# Altium schematic symbol library INS.SchLib: 115 symbols (part 1 of 2)
Pins are listed as number, name and electrical type; pins without a type are passive.

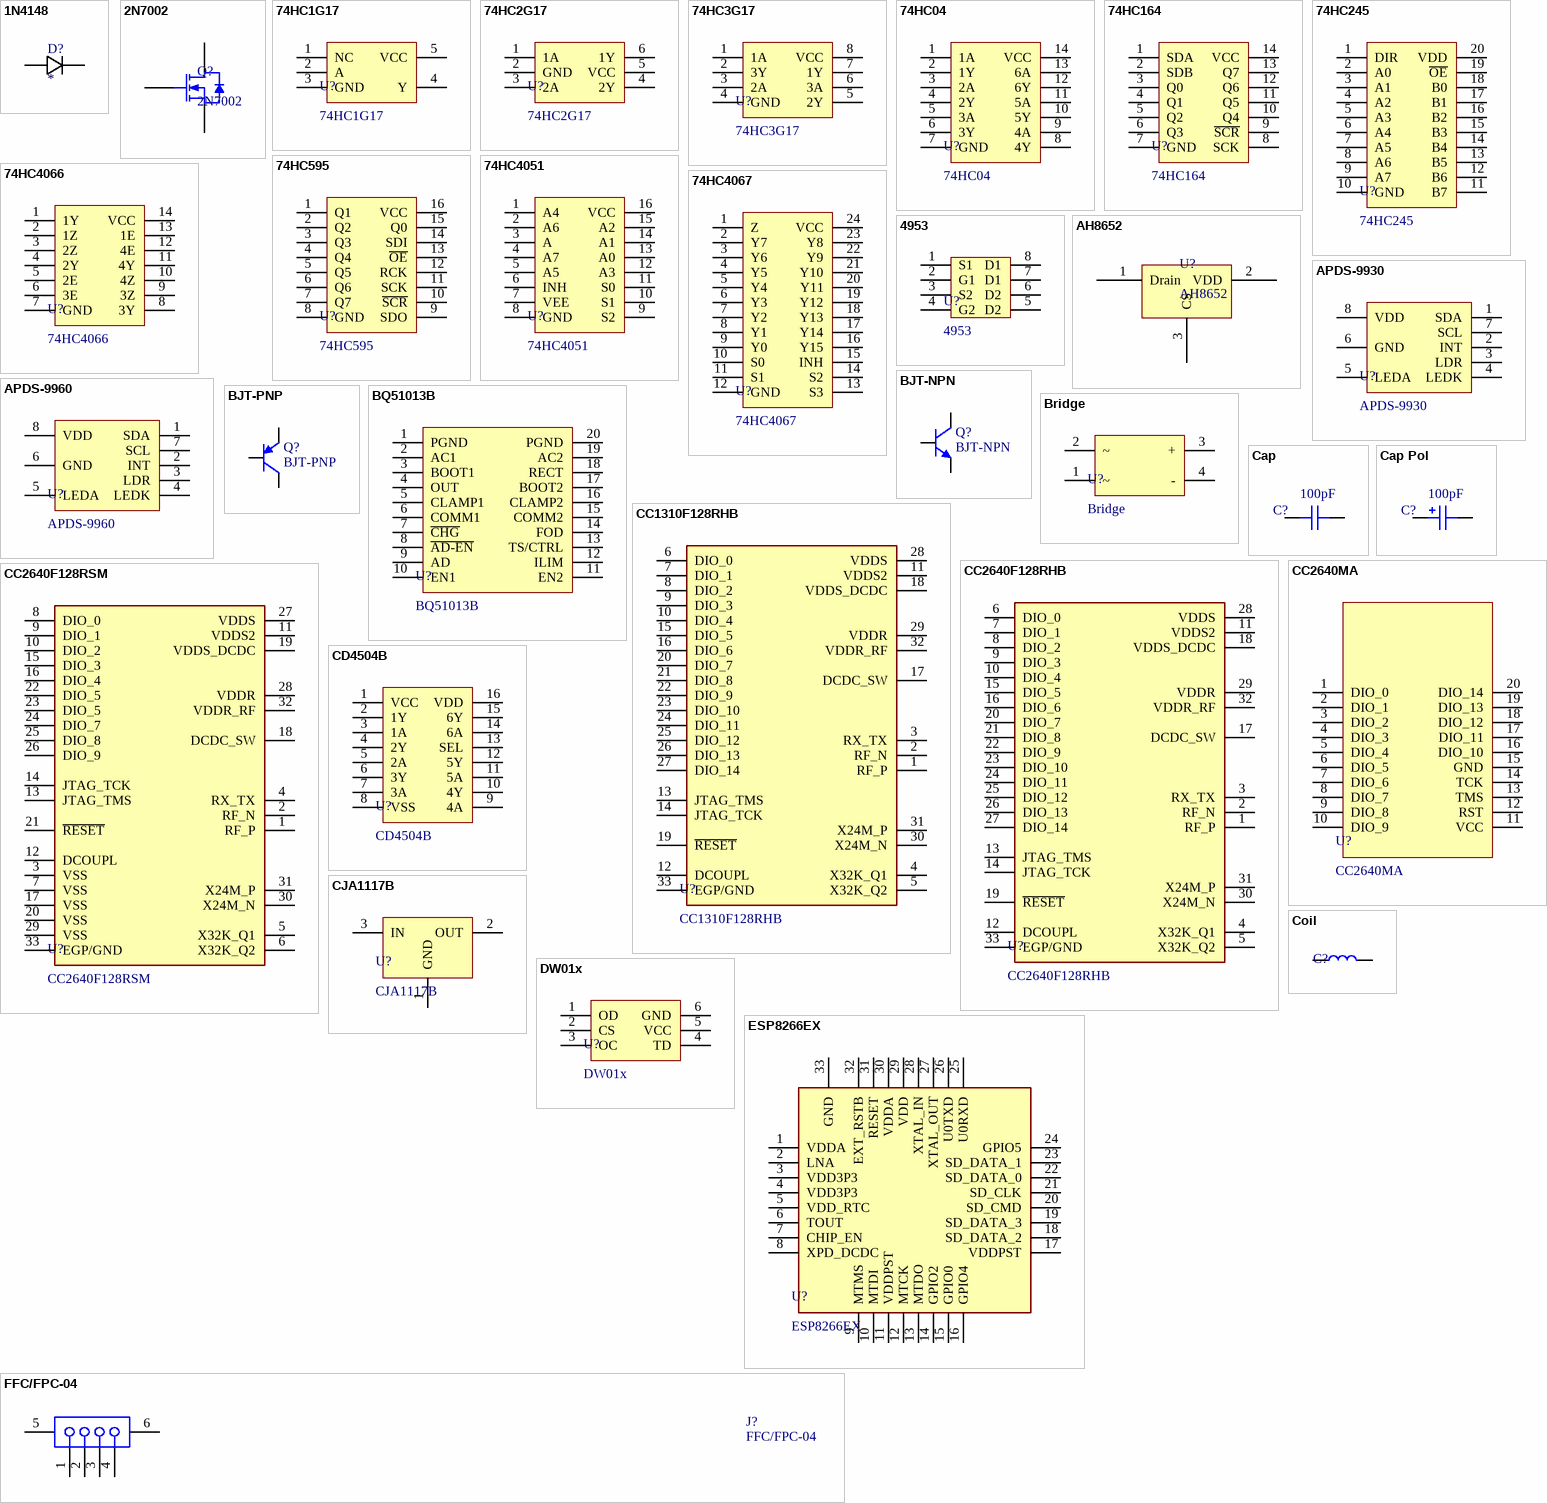
[diagram p0: symbols 1N4148 to FFC/FPC-04]

## 1N4148
designator D?
footprint SOD-523
footprint SOD-523 - 0.8
footprint SOD-123
footprint SMA
footprint SOD-323
footprint SMAF
pins: 1, 2

## 2N7002
designator Q?
footprint SOT-23-3
footprint SOT-323/SC70-3
pins: 1 G, 2 S, 3 D

## 74HC1G17
designator U?
footprint SOT-23-5
pins: 1 NC, 2 A, 3 GND, 4 Y, 5 VCC

## 74HC2G17
designator U?
footprint SOT-363/SC70-6
pins: 1 1A, 2 GND, 3 2A, 4 2Y, 5 VCC, 6 1Y

## 74HC3G17
designator U?
footprint TSSOP8 (Thin Shrink Small Outline; 8 Leads; Body Width 4.4 mm; Pitch 0.65 mm)
pins: 1 1A, 2 3Y, 3 2A, 4 GND, 5 2Y, 6 3A, 7 1Y, 8 VCC

## 74HC04
designator U?
footprint 74HC245
footprint TSSOP14 (Thin Shrink Small Outline; 14 Leads; Body Width 4.4 mm; Pitch 0.65 mm)
pins: 1 1A, 2 1Y, 3 2A, 4 2Y, 5 3A, 6 3Y, 7 GND, 8 4Y, 9 4A, 10 5Y, 11 5A, 12 6Y, 13 6A, 14 VCC

## 74HC164
designator U?
footprint TSSOP14 (Thin Shrink Small Outline; 14 Leads; Body Width 4.4 mm; Pitch 0.65 mm)
pins: 1 SDA, 2 SDB, 3 Q0, 4 Q1, 5 Q2, 6 Q3, 7 GND, 8 SCK, 9 ~{SCR}, 10 Q4, 11 Q5, 12 Q6, 13 Q7, 14 VCC

## 74HC245
designator U?
footprint 74HC245
footprint TSSOP20 (Thin Shrink Small Outline; 20 Leads; Body Width 4.4 mm; Pitch 0.65 mm)
pins: 1 DIR, 2 A0, 3 A1, 4 A2, 5 A3, 6 A4, 7 A5, 8 A6, 9 A7, 10 GND, 11 B7, 12 B6, 13 B5, 14 B4, 15 B3, 16 B2, 17 B1, 18 B0, 19 ~{OE}, 20 VDD

## 74HC595
designator U?
footprint 74HC595
footprint TSSOP16 (Thin Shrink Small Outline; 16 Leads; Body Width 4.4 mm; Pitch 0.65 mm)
footprint DHVQFN16
footprint DHVQFN16 - NoPad
footprint DHVQFN16 - SM
pins: 1 Q1, 2 Q2, 3 Q3, 4 Q4, 5 Q5, 6 Q6, 7 Q7, 8 GND, 9 SDO, 10 ~{SCR}, 11 SCK, 12 RCK, 13 ~{OE}, 14 SDI, 15 Q0, 16 VCC

## 74HC4051
designator U?
footprint 74HC4051
footprint TSSOP16 (Thin Shrink Small Outline; 16 Leads; Body Width 4.4 mm; Pitch 0.65 mm)
footprint DHVQFN16
pins: 1 A4, 2 A6, 3 A, 4 A7, 5 A5, 6 INH, 7 VEE, 8 GND, 9 S2, 10 S1, 11 S0, 12 A3, 13 A0, 14 A1, 15 A2, 16 VCC

## 74HC4066
designator U?
footprint TSSOP14 (Thin Shrink Small Outline; 14 Leads; Body Width 4.4 mm; Pitch 0.65 mm)
pins: 1 1Y, 2 1Z, 3 2Z, 4 2Y, 5 2E, 6 3E, 7 GND, 8 3Y, 9 3Z, 10 4Z, 11 4Y, 12 4E, 13 1E, 14 VCC

## 74HC4067
designator U?
footprint 74HC4067
footprint TSSOP24 (Thin Shrink Small Outline; 24 Leads; Body Width 4.4 mm; Pitch 0.65 mm)
pins: 1 Z, 2 Y7, 3 Y6, 4 Y5, 5 Y4, 6 Y3, 7 Y2, 8 Y1, 9 Y0, 10 S0, 11 S1, 12 GND, 13 S3, 14 S2, 15 INH, 16 Y15, 17 Y14, 18 Y13, 19 Y12, 20 Y11, 21 Y10, 22 Y9, 23 Y8, 24 VCC

## 4953
designator U?
footprint 4953
3D model SO8_0_0000_U (PCB3D Model)
pins: 1 S1, 2 G1, 3 S2, 4 G2, 5 D2, 6 D2, 7 D1, 8 D1

## AH8652
designator U?
footprint SOT-23-3
pins: 1 Drain , 2 VDD, 3 CS

## APDS-9930
designator U?
footprint APDS-9930
pins: 1 SDA, 2 INT, 3 LDR, 4 LEDK, 5 LEDA, 6 GND, 7 SCL, 8 VDD

## APDS-9960
designator U?
footprint APDS-9960
pins: 1 SDA, 2 INT, 3 LDR, 4 LEDK, 5 LEDA, 6 GND, 7 SCL, 8 VDD

## BJT-NPN
designator Q?
NPN General Purpose Amplifier; Published: 8-Jun-2000; LatestRevisionDate: 15-Jan-2003; LatestRevisionNote: PCB Footprint 'BCY-W3/D4.7' replaced; DatasheetVersion: 1997; PackageVersion: Sep-1998; PackageReference: TO-92A; Publisher: Altium Limited; PackageDescription: TO, Flat Index; 3 In-Line, Axial Leads; Body Dia. 4.5mm; Leads 0.51 x 0.48 mm (max); ComponentLink1Description: Manufacturer Link; ComponentLink1URL: http://www.fairchildsemi.com/; ComponentLink2Description: Datasheet; ComponentLink2URL: http://www.fairchildsemi.com/ds/2N%2F2N3904.pdf
footprint SOT-23-3
footprint SOT-323/SC70-3
pins: 1 E, 2 B, 3 C

## BJT-PNP
designator Q?
PNP General Purpose Amplifier; Published: 8-Jun-2000; LatestRevisionDate: 15-Jan-2003; LatestRevisionNote: PCB Footprint 'BCY-W3/D4.7' replaced; DatasheetVersion: 1997; PackageVersion: Sep-1998; PackageReference: TO-92A; Publisher: Altium Limited; PackageDescription: TO, Flat Index; 3 In-Line, Axial Leads; Body Dia. 4.5mm; Leads 0.51 x 0.48 mm (max); ComponentLink1Description: Manufacturer Link; ComponentLink1URL: http://www.fairchildsemi.com/; ComponentLink2Description: Datasheet; ComponentLink2URL: http://www.fairchildsemi.com/ds/2N%2F2N3906.pdf
footprint SOT-23-3
footprint SOT-323/SC70-3
pins: 1 E, 2 B, 3 C

## BQ51013B
designator U?
footprint VQFN20
pins: 1 PGND, 2 AC1, 3 BOOT1, 4 OUT, 5 CLAMP1, 6 COMM1, 7 ~{CHG}, 8 ~{AD-EN}, 9 AD, 10 EN1, 11 EN2, 12 ILIM, 13 TS/CTRL, 14 FOD, 15 COMM2, 16 CLAMP2, 17 BOOT2, 18 RECT, 19 AC2, 20 PGND

## Bridge
designator U?
footprint MBxF
pins: 1 ~, 2 ~, 3 +, 4 -

## Cap
designator C?  value 100pF  (hidden comment: Cap)
Capacitor; Published: 8-Jun-2000; LatestRevisionDate: 17-Jul-2002; LatestRevisionNote: Re-released for DXP Platform.; PackageReference: RB7.6-15; Publisher: Altium Limited; PackageDescription: Polarized Capacitor (Radial); 2 Leads
footprint 0402 - CAP
footprint 0603 - CAP
footprint RAD-3.6-5.0
footprint RAD-3.2-5.0
footprint 0201
footprint RAD-3.2-6.0
footprint 0805
pins: 1, 2
1 alternate drawing of the same symbol

## Cap Pol
designator C?  value 100pF  (hidden comment: Cap Pol)
Polarized Capacitor; Published: 8-Jun-2000; LatestRevisionDate: 17-Jul-2002; LatestRevisionNote: Re-released for DXP Platform.; PackageReference: RB7.6-15; Publisher: Altium Limited; PackageDescription: Polarized Capacitor (Radial); 2 Leads
footprint 0603 - CAP
footprint RB-6.3-2.5 (Polarized Capacitor (Radial); 2 Leads)
footprint RAD-6.8-1.5
footprint RB-5x11-2 (Polarized Capacitor (Radial); 2 Leads)
footprint RB-8.0-3.5
pins: 1, 2
1 alternate drawing of the same symbol

## CC1310F128RHB
designator U?
footprint QFN-32-0.5
pins: 1 RF_P, 2 RF_N, 3 RX_TX, 4 X32K_Q1, 5 X32K_Q2, 6 DIO_0, 7 DIO_1, 8 DIO_2, 9 DIO_3, 10 DIO_4, 11 VDDS2, 12 DCOUPL, 13 JTAG_TMS, 14 JTAG_TCK, 15 DIO_5, 16 DIO_6, 17 DCDC_SW, 18 VDDS_DCDC, 19 ~{RESET}, 20 DIO_7, 21 DIO_8, 22 DIO_9, 23 DIO_10, 24 DIO_11, 25 DIO_12, 26 DIO_13, 27 DIO_14, 28 VDDS, 29 VDDR, 30 X24M_N, 31 X24M_P, 32 VDDR_RF, 33 EGP/GND

## CC2640F128RHB
designator U?
footprint QFN-32-0.5
pins: 1 RF_P, 2 RF_N, 3 RX_TX, 4 X32K_Q1, 5 X32K_Q2, 6 DIO_0, 7 DIO_1, 8 DIO_2, 9 DIO_3, 10 DIO_4, 11 VDDS2, 12 DCOUPL, 13 JTAG_TMS, 14 JTAG_TCK, 15 DIO_5, 16 DIO_6, 17 DCDC_SW, 18 VDDS_DCDC, 19 ~{RESET}, 20 DIO_7, 21 DIO_8, 22 DIO_9, 23 DIO_10, 24 DIO_11, 25 DIO_12, 26 DIO_13, 27 DIO_14, 28 VDDS, 29 VDDR, 30 X24M_N, 31 X24M_P, 32 VDDR_RF, 33 EGP/GND

## CC2640F128RSM
designator U?
footprint QFN-32-0.4
pins: 1 RF_P, 2 RF_N, 3 VSS, 4 RX_TX, 5 X32K_Q1, 6 X32K_Q2, 7 VSS, 8 DIO_0, 9 DIO_1, 10 DIO_2, 11 VDDS2, 12 DCOUPL, 13 JTAG_TMS, 14 JTAG_TCK, 15 DIO_3, 16 DIO_4, 17 VSS, 18 DCDC_SW, 19 VDDS_DCDC, 20 VSS, 21 ~{RESET}, 22 DIO_5, 23 DIO_5, 24 DIO_7, 25 DIO_8, 26 DIO_9, 27 VDDS, 28 VDDR, 29 VSS, 30 X24M_N, 31 X24M_P, 32 VDDR_RF, 33 EGP/GND

## CC2640MA
designator U?
footprint CC2640MA
pins: 1 DIO_0, 2 DIO_1, 3 DIO_2, 4 DIO_3, 5 DIO_4, 6 DIO_5, 7 DIO_6, 8 DIO_7, 9 DIO_8, 10 DIO_9, 11 VCC, 12 RST, 13 TMS, 14 TCK, 15 GND, 16 DIO_10, 17 DIO_11, 18 DIO_12, 19 DIO_13, 20 DIO_14

## CD4504B
designator U?
footprint TSSOP16 (Thin Shrink Small Outline; 16 Leads; Body Width 4.4 mm; Pitch 0.65 mm)
pins: 1 VCC, 2 1Y, 3 1A, 4 2Y, 5 2A, 6 3Y, 7 3A, 8 VSS, 9 4A, 10 4Y, 11 5A, 12 5Y, 13 SEL, 14 6A, 15 6Y, 16 VDD

## CJA1117B
designator U?
footprint SOT-23-3
footprint SOT-89-3
pins: 1 GND, 2 OUT, 3 IN

## Coil
designator C?  (value not drawn)
Code_IEC: 1005; Published: 8-Jun-2000; LatestRevisionDate: 29-May-2009; LatestRevisionNote: IPC-7351 Footprint Added.; PackageReference: 0402-A; Publisher: Altium Limited; PackageDescription: Chip Inductor; Code_JEITA: 0402
footprint COIL - 30x40x0.4x2
pins: 1, 2

## DW01x
designator U?
footprint SOT-23-6
pins: 1 OD, 2 CS, 3 OC, 4 TD, 5 VCC, 6 GND

## ESP8266EX
designator U?
footprint QFN-32-0.5
pins: 1 VDDA, 2 LNA, 3 VDD3P3, 4 VDD3P3, 5 VDD_RTC, 6 TOUT, 7 CHIP_EN, 8 XPD_DCDC, 9 MTMS, 10 MTDI, 11 VDDPST, 12 MTCK, 13 MTDO, 14 GPIO2, 15 GPIO0, 16 GPIO4, 17 VDDPST, 18 SD_DATA_2, 19 SD_DATA_3, 20 SD_CMD, 21 SD_CLK, 22 SD_DATA_0, 23 SD_DATA_1, 24 GPIO5, 25 U0RXD, 26 U0TXD, 27 XTAL_OUT, 28 XTAL_IN, 29 VDD, 30 VDDA, 31 RESET, 32 EXT_RSTB, 33 GND

## FFC/FPC-04
designator J?
FFC/FPC Connector, 4 Pin; Positions: 45; ContactMaterial: Phosphor Bronze; Current: 0.4A; PCB_Layout: Complies with manufacturer's recommendation.; Note: Pad dimensions follow nominal values, Suitable for Wave Soldering, Adjust for Re-flow.; Published: 17-Jul-2002; DatasheetVersion: 13-Nov-2000; PackageVersion: 13-Nov-2000; PackageReference: FH12A-45S-0.5SH; Publisher: Altium Limited; ComponentLink1Description: Manufacturer Link; ComponentLink1URL: http://www.hiroseusa.com/; ComponentLink2Description: Datasheet; ComponentLink2URL: http://www.hirose.co.jp/cataloge_hp/e58605370.pdf
footprint FH12-04S-0.5SH (Connector; FH12 Series; 4 Position; 0.5mm Spaced Bottom Contact)
pins: 1, 2, 3, 4, 5 MH1, 6 MH2

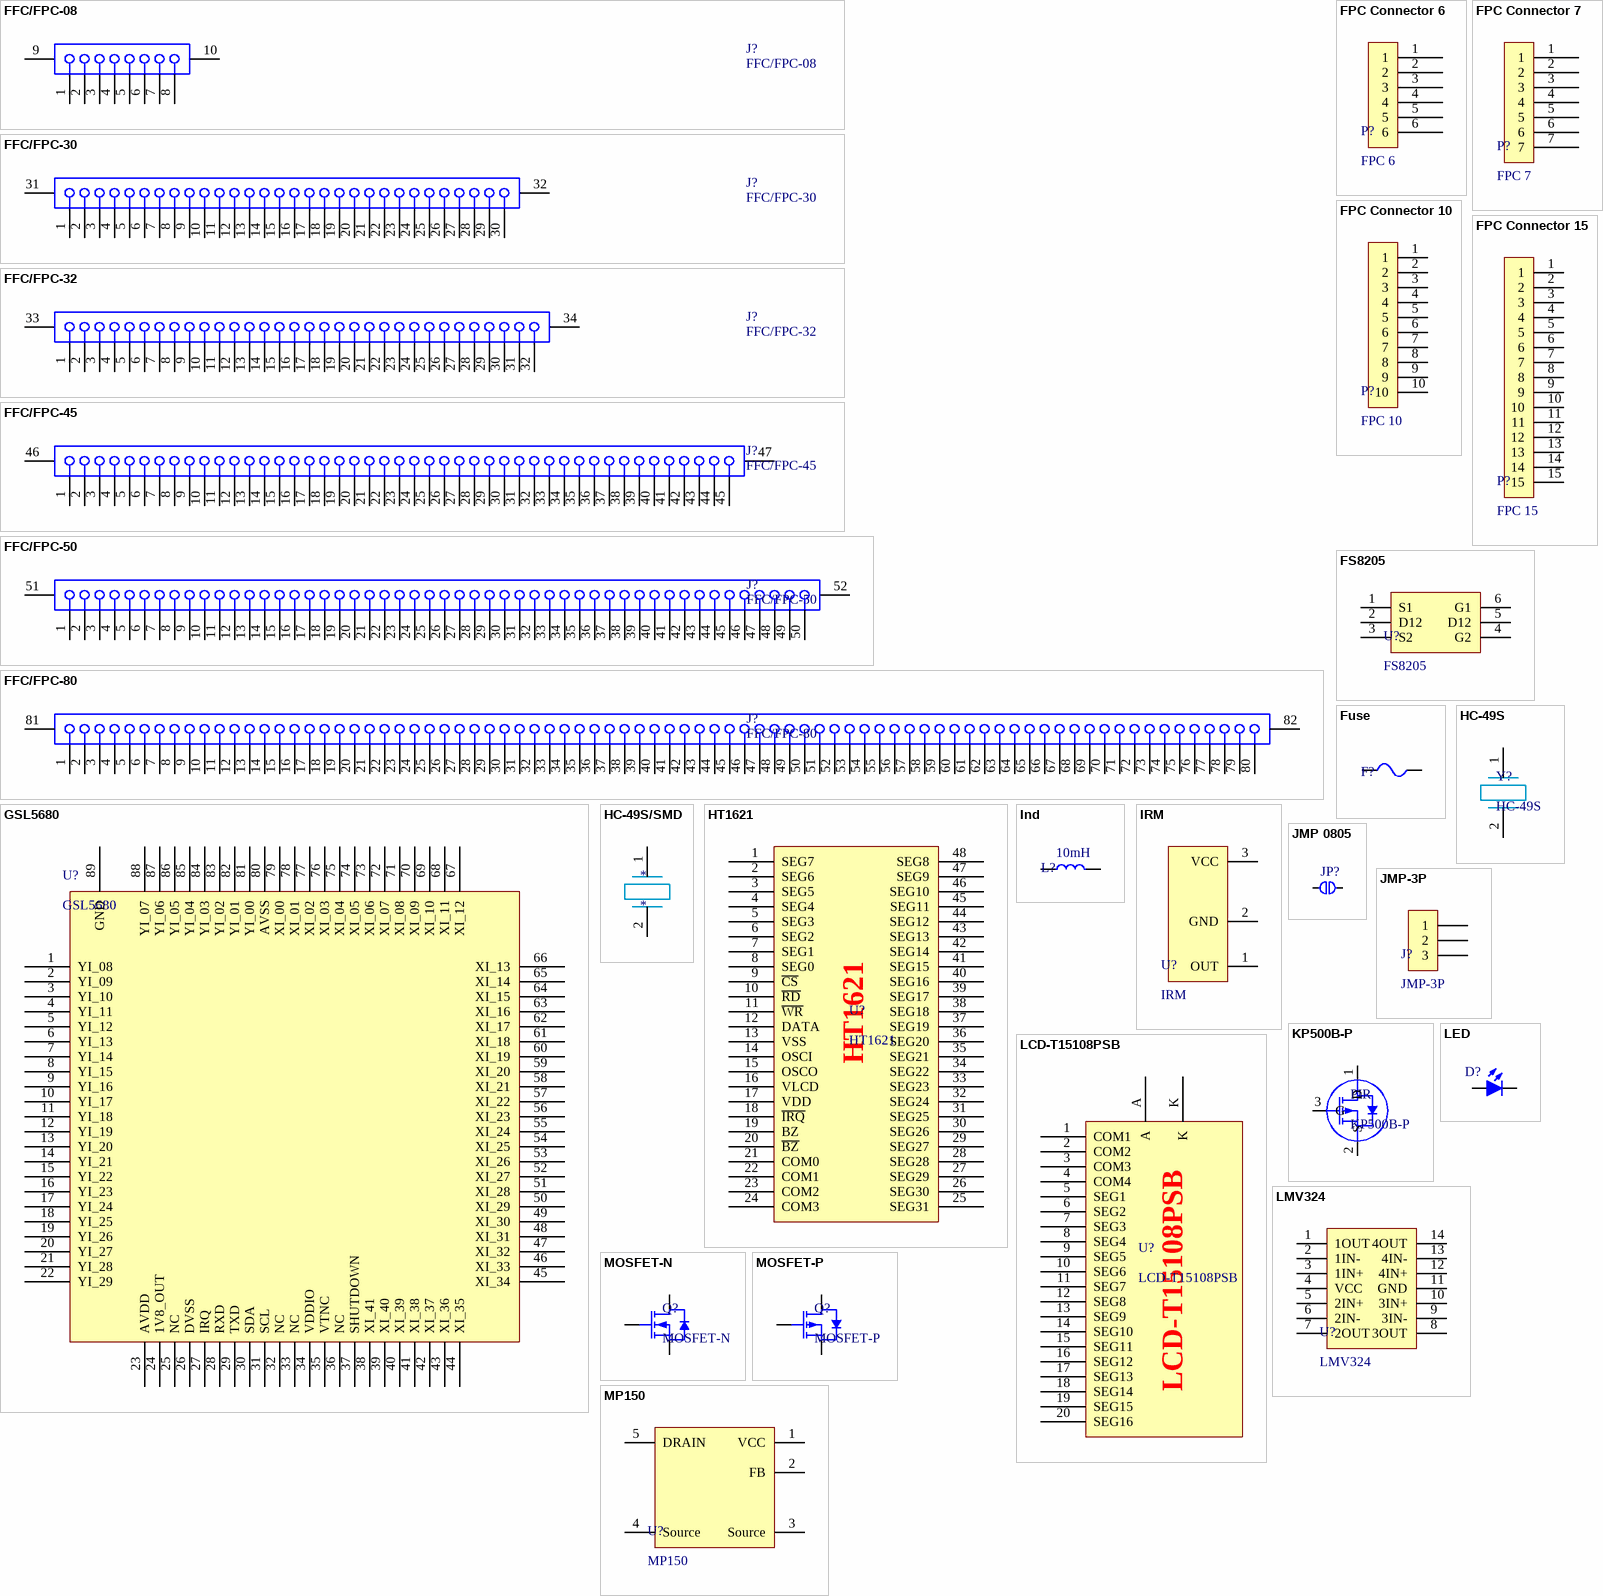
[diagram p1: symbols FFC/FPC-08 to MP150]

## FFC/FPC-08
designator J?
FFC/FPC Connector, 8 Pin; Positions: 45; ContactMaterial: Phosphor Bronze; Current: 0.4A; PCB_Layout: Complies with manufacturer's recommendation.; Note: Pad dimensions follow nominal values, Suitable for Wave Soldering, Adjust for Re-flow.; Published: 17-Jul-2002; DatasheetVersion: 13-Nov-2000; PackageVersion: 13-Nov-2000; PackageReference: FH12A-45S-0.5SH; Publisher: Altium Limited; ComponentLink1Description: Manufacturer Link; ComponentLink1URL: http://www.hiroseusa.com/; ComponentLink2Description: Datasheet; ComponentLink2URL: http://www.hirose.co.jp/cataloge_hp/e58605370.pdf
footprint FH12-08S-0.5SH (Connector; FH12 Series; 8 Position; 0.5mm Spaced Bottom Contact)
footprint FC-JS-0.5mm-8P (Connector; FH12 Series; 8 Position; 0.5mm Spaced Bottom Contact)
pins: 1, 2, 3, 4, 5, 6, 7, 8, 9 MH1, 10 MH2

## FFC/FPC-30
designator J?
FFC/FPC Connector, 30 Pin; Positions: 45; ContactMaterial: Phosphor Bronze; Current: 0.4A; PCB_Layout: Complies with manufacturer's recommendation.; Note: Pad dimensions follow nominal values, Suitable for Wave Soldering, Adjust for Re-flow.; Published: 17-Jul-2002; DatasheetVersion: 13-Nov-2000; PackageVersion: 13-Nov-2000; PackageReference: FH12A-45S-0.5SH; Publisher: Altium Limited; ComponentLink1Description: Manufacturer Link; ComponentLink1URL: http://www.hiroseusa.com/; ComponentLink2Description: Datasheet; ComponentLink2URL: http://www.hirose.co.jp/cataloge_hp/e58605370.pdf
footprint FH12-30S-0.5SH (Connector; FH12 Series; 30 Position; 0.5mm Spaced Bottom Contact)
pins: 1, 2, 3, 4, 5, 6, 7, 8, 9, 10, 11, 12, 13, 14, 15, 16, 17, 18, 19, 20, 21, 22, 23, 24, 25, 26, 27, 28, 29, 30, 31 MH1, 32 MH2

## FFC/FPC-32
designator J?
FFC/FPC Connector, 32 Pin; Positions: 45; ContactMaterial: Phosphor Bronze; Current: 0.4A; PCB_Layout: Complies with manufacturer's recommendation.; Note: Pad dimensions follow nominal values, Suitable for Wave Soldering, Adjust for Re-flow.; Published: 17-Jul-2002; DatasheetVersion: 13-Nov-2000; PackageVersion: 13-Nov-2000; PackageReference: FH12A-45S-0.5SH; Publisher: Altium Limited; ComponentLink1Description: Manufacturer Link; ComponentLink1URL: http://www.hiroseusa.com/; ComponentLink2Description: Datasheet; ComponentLink2URL: http://www.hirose.co.jp/cataloge_hp/e58605370.pdf
footprint FH12-32S-0.5SH (Connector; FH12 Series; 32 Position; 0.5mm Spaced Bottom Contact)
pins: 1, 2, 3, 4, 5, 6, 7, 8, 9, 10, 11, 12, 13, 14, 15, 16, 17, 18, 19, 20, 21, 22, 23, 24, 25, 26, 27, 28, 29, 30, 31, 32, 33 MH1, 34 MH2

## FFC/FPC-45
designator J?
FFC/FPC Connector, 45 Pin; Positions: 45; ContactMaterial: Phosphor Bronze; Current: 0.4A; PCB_Layout: Complies with manufacturer's recommendation.; Note: Pad dimensions follow nominal values, Suitable for Wave Soldering, Adjust for Re-flow.; Published: 17-Jul-2002; DatasheetVersion: 13-Nov-2000; PackageVersion: 13-Nov-2000; PackageReference: FH12A-45S-0.5SH; Publisher: Altium Limited; ComponentLink1Description: Manufacturer Link; ComponentLink1URL: http://www.hiroseusa.com/; ComponentLink2Description: Datasheet; ComponentLink2URL: http://www.hirose.co.jp/cataloge_hp/e58605370.pdf
footprint FH12-45S-0.5SH (Connector; FH12 Series; 45 Position; 0.5mm Spaced Bottom Contact)
pins: 1, 2, 3, 4, 5, 6, 7, 8, 9, 10, 11, 12, 13, 14, 15, 16, 17, 18, 19, 20, 21, 22, 23, 24, 25, 26, 27, 28, 29, 30, 31, 32, 33, 34, 35, 36, 37, 38, 39, 40, 41, 42, 43, 44, 45, 46 MH1, 47 MH2

## FFC/FPC-50
designator J?
FFC/FPC Connector, 50 Pin; Positions: 45; ContactMaterial: Phosphor Bronze; Current: 0.4A; PCB_Layout: Complies with manufacturer's recommendation.; Note: Pad dimensions follow nominal values, Suitable for Wave Soldering, Adjust for Re-flow.; Published: 17-Jul-2002; DatasheetVersion: 13-Nov-2000; PackageVersion: 13-Nov-2000; PackageReference: FH12A-45S-0.5SH; Publisher: Altium Limited; ComponentLink1Description: Manufacturer Link; ComponentLink1URL: http://www.hiroseusa.com/; ComponentLink2Description: Datasheet; ComponentLink2URL: http://www.hirose.co.jp/cataloge_hp/e58605370.pdf
footprint FH12-50S-0.5SH (Connector; FH12 Series; 50 Position; 0.5mm Spaced Bottom Contact)
pins: 1, 2, 3, 4, 5, 6, 7, 8, 9, 10, 11, 12, 13, 14, 15, 16, 17, 18, 19, 20, 21, 22, 23, 24, 25, 26, 27, 28, 29, 30, 31, 32, 33, 34, 35, 36, 37, 38, 39, 40, 41, 42, 43, 44, 45, 46, 47, 48, 49, 50, 51 MH1, 52 MH2

## FFC/FPC-80
designator J?
FFC/FPC Connector, 80 Pin; Positions: 45; ContactMaterial: Phosphor Bronze; Current: 0.4A; PCB_Layout: Complies with manufacturer's recommendation.; Note: Pad dimensions follow nominal values, Suitable for Wave Soldering, Adjust for Re-flow.; Published: 17-Jul-2002; DatasheetVersion: 13-Nov-2000; PackageVersion: 13-Nov-2000; PackageReference: FH12A-45S-0.5SH; Publisher: Altium Limited; ComponentLink1Description: Manufacturer Link; ComponentLink1URL: http://www.hiroseusa.com/; ComponentLink2Description: Datasheet; ComponentLink2URL: http://www.hirose.co.jp/cataloge_hp/e58605370.pdf
footprint FH12-80S-0.5SH (Connector; FH12 Series; 80 Position; 0.5mm Spaced Bottom Contact)
pins: 1, 2, 3, 4, 5, 6, 7, 8, 9, 10, 11, 12, 13, 14, 15, 16, 17, 18, 19, 20, 21, 22, 23, 24, 25, 26, 27, 28, 29, 30, 31, 32, 33, 34, 35, 36, 37, 38, 39, 40, 41, 42, 43, 44, 45, 46, 47, 48, 49, 50, 51, 52, 53, 54, 55, 56, 57, 58, 59, 60, 61, 62, 63, 64, 65, 66, 67, 68, 69, 70, 71, 72, 73, 74, 75, 76, 77, 78, 79, 80, 81, 82

## FPC Connector 6
designator P?, comment FPC 6
FPC Connector, 6-Pin
footprint FPC Connector 6 (FPC Connector, 6 pins)
pins: 1, 2, 3, 4, 5, 6

## FPC Connector 7
designator P?, comment FPC 7
FPC Connector, 7-Pin
footprint FPC Connector 7 (FPC Connector, 7 pins)
pins: 1, 2, 3, 4, 5, 6, 7

## FPC Connector 10
designator P?, comment FPC 10
FPC Connector, 10-Pin
footprint FPC Connector 10 (FPC Connector, 10 pins)
pins: 1, 2, 3, 4, 5, 6, 7, 8, 9, 10

## FPC Connector 15
designator P?, comment FPC 15
FPC Connector, 15-Pin
footprint FPC Connector 15 (FPC Connector, 15 pins)
pins: 1, 2, 3, 4, 5, 6, 7, 8, 9, 10, 11, 12, 13, 14, 15

## FS8205
designator U?
footprint SOT-23-6
pins: 1 S1, 2 D12, 3 S2, 4 G2, 5 D12, 6 G1

## Fuse
designator F?  (value not drawn)
Value: 250V10A; Published: 8-Jun-2000; LatestRevisionDate: 17-Jul-2002; LatestRevisionNote: Re-released for DXP Platform.; PackageReference: AXIAL-0.3; Publisher: Altium Limited; PackageDescription: Axial Device, Thru-Hole; 2 Leads; 0.3 in Pin Spacing
footprint AXIAL-3.2-2.8
footprint AXIAL-3.0-2.5
pins: 1, 2

## GSL5680
designator U?
footprint QFN-88-0.4
pins: 1 YI_08, 2 YI_09, 3 YI_10, 4 YI_11, 5 YI_12, 6 YI_13, 7 YI_14, 8 YI_15, 9 YI_16, 10 YI_17, 11 YI_18, 12 YI_19, 13 YI_20, 14 YI_21, 15 YI_22, 16 YI_23, 17 YI_24, 18 YI_25, 19 YI_26, 20 YI_27, 21 YI_28, 22 YI_29, 23 AVDD, 24 1V8_OUT, 25 NC, 26 DVSS, 27 IRQ, 28 RXD, 29 TXD, 30 SDA, 31 SCL, 32 NC, 33 NC, 34 VDDIO, 35 VTNC, 36 NC, 37 SHUTDOWN, 38 XI_41, 39 XI_40, 40 XI_39, 41 XI_38, 42 XI_37, 43 XI_36, 44 XI_35, 45 XI_34, 46 XI_33, 47 XI_32, 48 XI_31, 49 XI_30, 50 XI_29, 51 XI_28, 52 XI_27, 53 XI_26, 54 XI_25, 55 XI_24, 56 XI_23, 57 XI_22, 58 XI_21, 59 XI_20, 60 XI_19, 61 XI_18, 62 XI_17, 63 XI_16, 64 XI_15, 65 XI_14, 66 XI_13, 67 XI_12, 68 XI_11, 69 XI_10, 70 XI_09, 71 XI_08, 72 XI_07, 73 XI_06, 74 XI_05, 75 XI_04, 76 XI_03, 77 XI_02, 78 XI_01, 79 XI_00, 80 AVSS, 81 YI_00, 82 YI_01, 83 YI_02, 84 YI_03, 85 YI_04, 86 YI_05, 87 YI_06, 88 YI_07, 89 GND

## HC-49S
designator Y?
footprint HC-49S
pins: 1 OSC1, 2 OSC2

## HC-49S/SMD
designator *
footprint HC-49S/SMD
pins: 1 OSC1, 2 OSC2

## HT1621
designator U?
footprint SSOP48
pins: 1 SEG7, 2 SEG6, 3 SEG5, 4 SEG4, 5 SEG3, 6 SEG2, 7 SEG1, 8 SEG0, 9 ~{CS}, 10 ~{RD}, 11 ~{WR}, 12 DATA, 13 VSS, 14 OSCI, 15 OSCO, 16 VLCD, 17 VDD, 18 ~{IRQ}, 19 BZ, 20 ~{BZ}, 21 COM0, 22 COM1, 23 COM2, 24 COM3, 25 SEG31, 26 SEG30, 27 SEG29, 28 SEG28, 29 SEG27, 30 SEG26, 31 SEG25, 32 SEG24, 33 SEG23, 34 SEG22, 35 SEG21, 36 SEG20, 37 SEG19, 38 SEG18, 39 SEG17, 40 SEG16, 41 SEG15, 42 SEG14, 43 SEG13, 44 SEG12, 45 SEG11, 46 SEG10, 47 SEG9, 48 SEG8

## Ind
designator L?  value 10mH  (hidden comment: Ind)
Inductor; Code_IEC: 1005; Published: 8-Jun-2000; LatestRevisionDate: 29-May-2009; LatestRevisionNote: IPC-7351 Footprint Added.; PackageReference: 0402-A; Publisher: Altium Limited; PackageDescription: Chip Inductor; Code_JEITA: 0402
footprint 0603 (Chip Inductor, Body 0.6x0.3mm, IPC High Density)
footprint 0402
footprint AXIAL-3.2-2.8
footprint AXIAL-3.0-2.5
footprint 0805
footprint 0201
footprint RB-6.3-2.5 (Polarized Capacitor (Radial); 2 Leads)
footprint 0420 - IND
pins: 1, 2

## IRM
designator U?
footprint IRM-3638
pins: 1 OUT, 2 GND, 3 VCC

## JMP 0805
designator JP?  (value not drawn)
footprint JMP 0805
footprint 0402
footprint 0402 - CAP
footprint 0402 - RES
footprint 0603
footprint 0603 - CAP
footprint 0603 - RES
pins: 1, 2

## JMP-3P
designator J?
footprint JMP-3P
pins: 1, 2, 3

## KP500B-P
designator PIR
footprint KP500B-P
footprint KP500B-P
pins: 1 D, 2 S, 3 G

## LCD-T15108PSB
designator U?
footprint LCD-T15108PSB
pins: 1 COM1, 2 COM2, 3 COM3, 4 COM4, 5 SEG1, 6 SEG2, 7 SEG3, 8 SEG4, 9 SEG5, 10 SEG6, 11 SEG7, 12 SEG8, 13 SEG9, 14 SEG10, 15 SEG11, 16 SEG12, 17 SEG13, 18 SEG14, 19 SEG15, 20 SEG16, A, K

## LED
designator D?  (value not drawn)
footprint LED 3mm
footprint LED 3mm - No silk
footprint LED 3MM MOS
footprint LED 3MM Small
footprint LED 3mm SMD
footprint LED 0402
footprint LED 0603
footprint LED 0603 - 0.8
footprint LED 0603 - HQ
footprint LED 0805
footprint 0603 - LED
footprint 0603 - LED - Side
footprint 0805 - LED
footprint 020 - LED
footprint 2835 - LED
footprint 3014 - LED
footprint 3014 - LED - SIDE
pins: A, K

## LMV324
designator U?
footprint TSSOP14 (Thin Shrink Small Outline; 14 Leads; Body Width 4.4 mm; Pitch 0.65 mm)
pins: 1 1OUT, 2 1IN-, 3 1IN+, 4 VCC, 5 2IN+, 6 2IN-, 7 2OUT, 8 3OUT, 9 3IN-, 10 3IN+, 11 GND, 12 4IN+, 13 4IN-, 14 4OUT

## MOSFET-N
designator Q?
footprint SOT-23-3
footprint SOT-323/SC70-3
pins: 1 G, 2 S, 3 D

## MOSFET-P
designator Q?
footprint SOT-23-3
footprint SOT-323/SC70-3
pins: 1 G, 2 S, 3 D

## MP150
designator U?
footprint SOT-23-5
pins: 1 VCC, 2 FB, 3 Source, 4 Source, 5 DRAIN

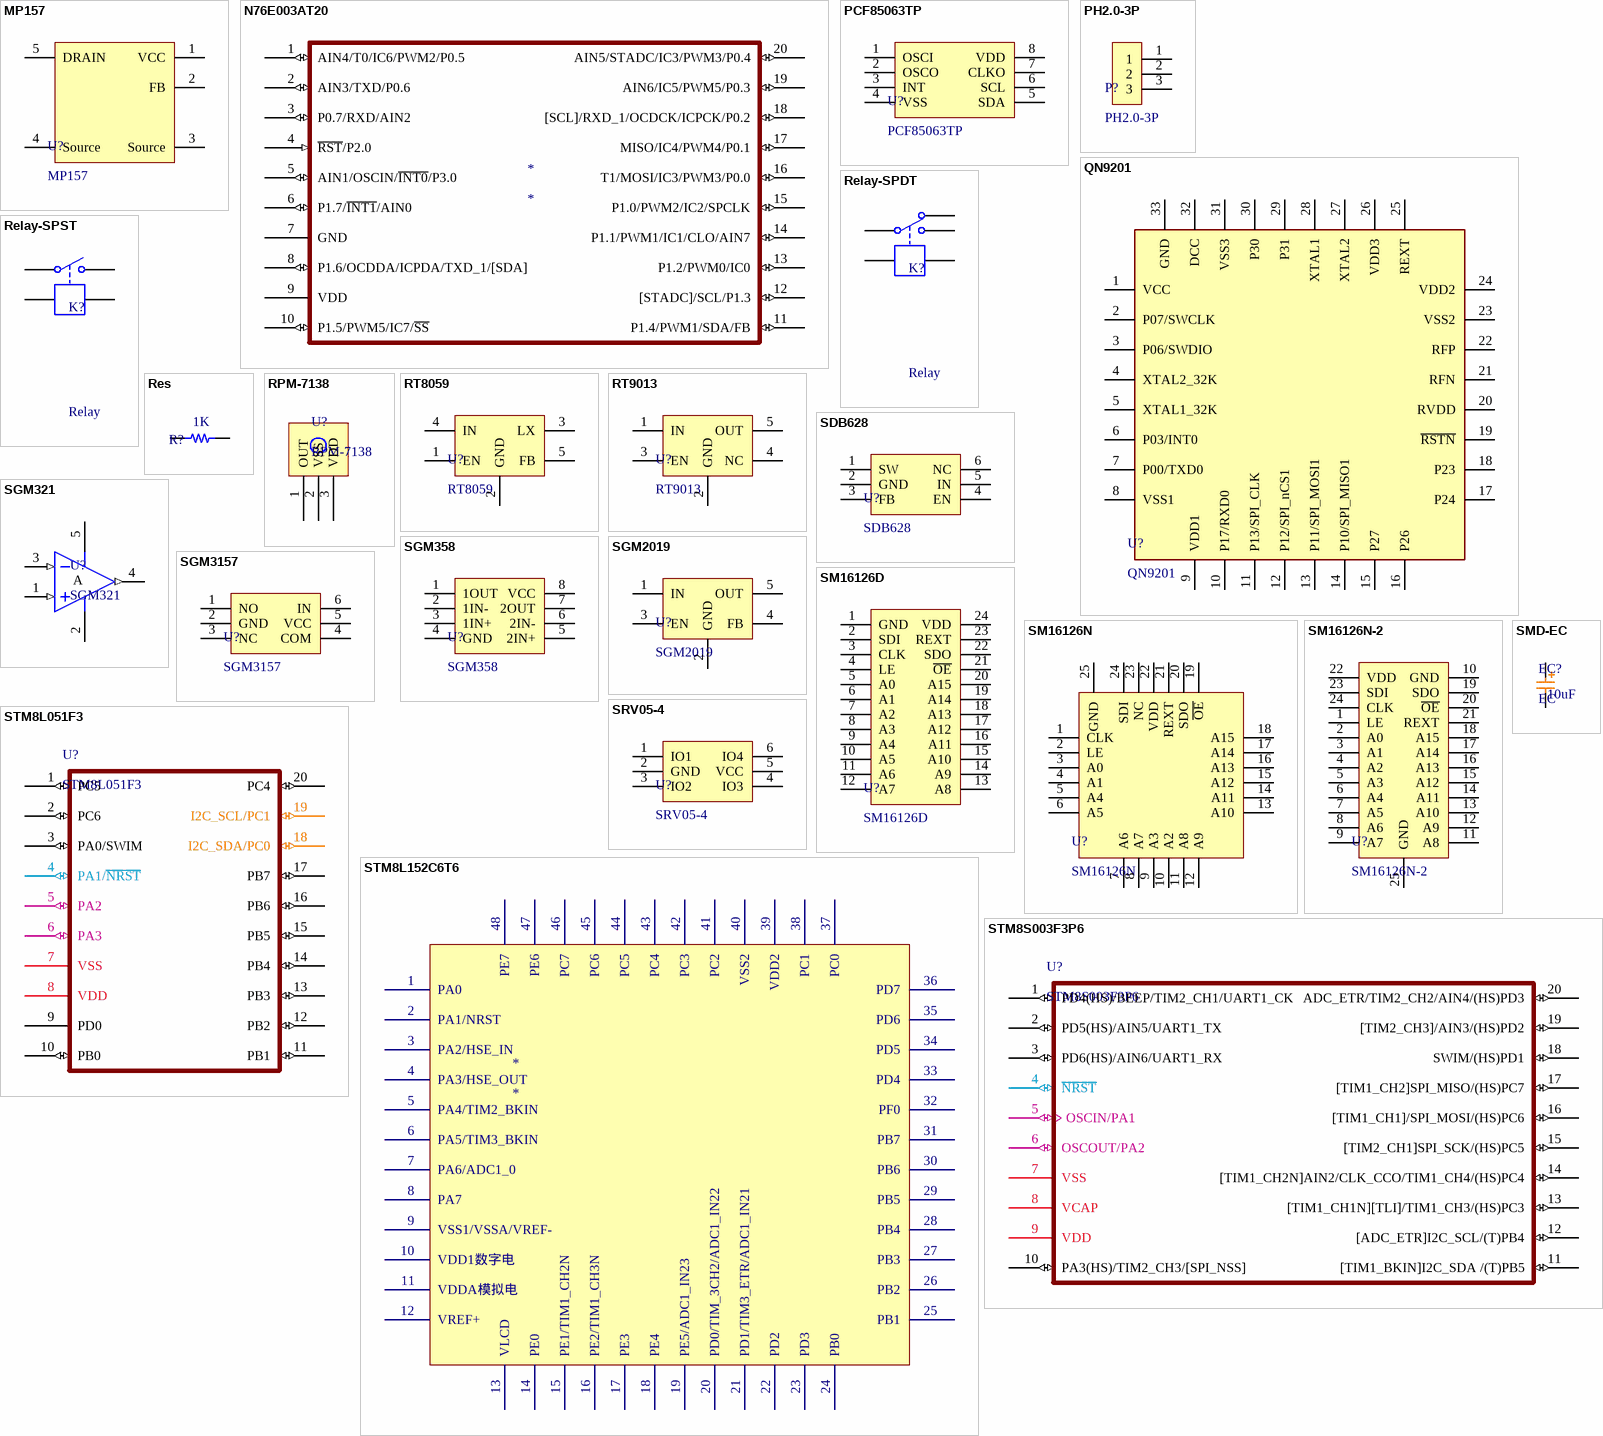
[diagram p2: symbols MP157 to STM8S003F3P6]

## MP157
designator U?
footprint SOT-23-5
pins: 1 VCC, 2 FB, 3 Source, 4 Source, 5 DRAIN

## N76E003AT20
designator *
footprint TSSOP20 (Thin Shrink Small Outline; 20 Leads; Body Width 4.4 mm; Pitch 0.65 mm)
pins: 1 AIN4/T0/IC6/PWM2/P0.5 (io), 2 AIN3/TXD/P0.6 (io), 3 P0.7/RXD/AIN2 (io), 4 ~{RST}/P2.0 (in), 5 AIN1/OSCIN/~{INT0}/P3.0 (io), 6 P1.7/~{INT1}/AIN0 (io), 7 GND (power), 8 P1.6/OCDDA/ICPDA/TXD_1/[SDA] (io), 9 VDD (power), 10 P1.5/PWM5/IC7/~{SS} (io), 11 P1.4/PWM1/SDA/FB (io), 12 [STADC]/SCL/P1.3 (io), 13 P1.2/PWM0/IC0 (io), 14 P1.1/PWM1/IC1/CLO/AIN7 (io), 15 P1.0/PWM2/IC2/SPCLK (io), 16 T1/MOSI/IC3/PWM3/P0.0 (io), 17 MISO/IC4/PWM4/P0.1 (io), 18 [SCL]/RXD_1/OCDCK/ICPCK/P0.2 (io), 19 AIN6/IC5/PWM5/P0.3 (io), 20 AIN5/STADC/IC3/PWM3/P0.4 (io)

## PCF85063TP
designator U?
footprint HWSON8
pins: 1 OSCI, 2 OSCO, 3 INT, 4 VSS, 5 SDA, 6 SCL, 7 CLKO, 8 VDD

## PH2.0-3P
designator P?
footprint PH2.0-3P
pins: 1, 2, 3

## QN9201
designator U?
footprint QFN-32-0.5
pins: 1 VCC, 2 P07/SWCLK, 3 P06/SWDIO, 4 XTAL2_32K, 5 XTAL1_32K, 6 P03/INT0, 7 P00/TXD0, 8 VSS1, 9 VDD1, 10 P17/RXD0, 11 P13/SPI_CLK, 12 P12/SPI_nCS1, 13 P11/SPI_MOSI1, 14 P10/SPI_MISO1, 15 P27, 16 P26, 17 P24, 18 P23, 19 ~{RSTN}, 20 RVDD, 21 RFN, 22 RFP, 23 VSS2, 24 VDD2, 25 REXT, 26 VDD3, 27 XTAL2, 28 XTAL1, 29 P31, 30 P30, 31 VSS3, 32 DCC, 33 GND

## Relay-SPDT
designator K?, comment Relay
Single-Pole Double-Throw Relay; Published: 24-Mar-1999; LatestRevisionDate: 17-Jul-2002; LatestRevisionNote: Re-released for DXP Platform.; PackageReference: MODULE4; Publisher: Altium Limited
pins: 1, 2, A, B, C

## Relay-SPST
designator K?, comment Relay
Single-Pole Single-Throw Relay; Published: 24-Mar-1999; LatestRevisionDate: 17-Jul-2002; LatestRevisionNote: Re-released for DXP Platform.; PackageReference: MODULE4; Publisher: Altium Limited
footprint HF46F-G
pins: 1, 2, 3, 4

## Res
designator R?  value 1K  (hidden comment: Res)
Resistor; Published: 8-Jun-2000; LatestRevisionDate: 17-Jul-2002; LatestRevisionNote: Re-released for DXP Platform.; PackageReference: AXIAL-0.3; Publisher: Altium Limited; PackageDescription: Axial Device, Thru-Hole; 2 Leads; 0.3 in Pin Spacing
footprint 0402 - RES
footprint 0603 - RES
footprint AXIAL-3.2-2.8
footprint 2512 -RES
footprint AXIAL-3.0-2.5
footprint 0201
pins: 1, 2

## RPM-7138
designator U?
footprint 接收头
pins: 1 OUT, 2 VSS, 3 VDD

## RT8059
designator U?
footprint SOT-23-5
pins: 1 EN, 2 GND, 3 LX, 4 IN, 5 FB

## RT9013
designator U?
footprint SOT-23-5
footprint SOT-353/SC70-5
pins: 1 IN, 2 GND, 3 EN, 4 NC, 5 OUT

## SDB628
designator U?
footprint SOT-23-6
pins: 1 SW, 2 GND, 3 FB, 4 EN, 5 IN, 6 NC

## SGM321
designator U?
footprint SOT-23-5
footprint SOT-353/SC70-5
pins: 1 IN+ (in), 2 V- (power), 3 IN- (in), 4 OUT (out), 5 V+ (power)
text: A

## SGM358
designator U?
footprint SO8_N (8-Pin Small Outline Integrated Circuit 1.27 mm Pitch, IPC Medium Density)
footprint TSSOP8 (Thin Shrink Small Outline; 8 Leads; Body Width 4.4 mm; Pitch 0.65 mm)
footprint MSOP8
pins: 1 1OUT, 2 1IN-, 3 1IN+, 4 GND, 5 2IN+, 6 2IN-, 7 2OUT, 8 VCC

## SGM2019
designator U?
footprint SOT-23-5
pins: 1 IN, 2 GND, 3 EN, 4 FB, 5 OUT

## SGM3157
designator U?
footprint SOT-363/SC70-6
pins: 1 NO, 2 GND, 3 NC, 4 COM, 5 VCC, 6 IN

## SM16126D
designator U?
footprint SM16126D
footprint QFN-24-0.5
footprint QSOP24 (Quarter Small Outline; 24 Leads; Body Width 4.0 mm; Pitch 0.635 mm)
pins: 1 GND, 2 SDI, 3 CLK, 4 LE, 5 A0, 6 A1, 7 A2, 8 A3, 9 A4, 10 A5, 11 A6, 12 A7, 13 A8, 14 A9, 15 A10, 16 A11, 17 A12, 18 A13, 19 A14, 20 A15, 21 ~{OE}, 22 SDO, 23 REXT, 24 VDD

## SM16126N
designator U?
footprint QFN-24-0.5
pins: 1 CLK, 2 LE, 3 A0, 4 A1, 5 A4, 6 A5, 7 A6, 8 A7, 9 A3, 10 A2, 11 A8, 12 A9, 13 A10, 14 A11, 15 A12, 16 A13, 17 A14, 18 A15, 19 ~{OE}, 20 SDO, 21 REXT, 22 VDD, 23 NC, 24 SDI, 25 GND

## SM16126N-2
designator U?
footprint QFN-24-0.5
footprint QFN-24-0.5-SM
pins: 1 LE, 2 A0, 3 A1, 4 A2, 5 A3, 6 A4, 7 A5, 8 A6, 9 A7, 10 GND, 11 A8, 12 A9, 13 A10, 14 A11, 15 A12, 16 A13, 17 A14, 18 A15, 19 SDO, 20 ~{OE}, 21 REXT, 22 VDD, 23 SDI, 24 CLK, 25 GND

## SMD-EC
designator EC?, comment EC
footprint SMD-EC-F3
footprint SMD-EC-F4
footprint SMD-EC-F5
footprint SMD-EC-F6.3
footprint SMD-EC-F8
footprint SMD-EC-F10
footprint SMD-EC-F12.5
footprint SMD-EC-F16
pins: 1, 2
text: 10uF

## SRV05-4
designator U?
footprint SOT-23-6
pins: 1 IO1, 2 GND, 3 IO2, 4 IO3, 5 VCC, 6 IO4

## STM8L051F3
designator U?
ST 8-bit  Microcontroller
footprint TSSOP20 (20-pin, 4.40 mm body, 0.65 mm pitch)
pins: 1 PC5 (io), 2 PC6 (io), 3 PA0/SWIM (io), 4 PA1/~{NRST} (io), 5 PA2 (io), 6 PA3 (io), 7 VSS (power), 8 VDD (power), 9 PD0 (power), 10 PB0 (io), 11 PB1 (io), 12 PB2 (io), 13 PB3 (io), 14 PB4 (io), 15 PB5 (io), 16 PB6 (io), 17 PB7 (io), 18 I2C_SDA/PC0 (io), 19 I2C_SCL/PC1 (io), 20 PC4 (io)

## STM8L152C6T6
designator *
footprint LQFP48
pins: 1 PA0 (power), 2 PA1/NRST (power), 3 PA2/HSE_IN (power), 4 PA3/HSE_OUT (power), 5 PA4/TIM2_BKIN (power), 6 PA5/TIM3_BKIN (power), 7 PA6/ADC1_0 (power), 8 PA7 (power), 9 VSS1/VSSA/VREF- (power), 10 VDD1数字电 (power), 11 VDDA模拟电 (power), 12 VREF+ (power), 13 VLCD (power), 14 PE0 (power), 15 PE1/TIM1_CH2N (power), 16 PE2/TIM1_CH3N (power), 17 PE3 (power), 18 PE4 (power), 19 PE5/ADC1_IN23 (power), 20 PD0/TIM_3CH2/ADC1_IN22 (power), 21 PD1/TIM3_ETR/ADC1_IN21 (power), 22 PD2 (power), 23 PD3 (power), 24 PB0 (power), 25 PB1 (power), 26 PB2 (power), 27 PB3 (power), 28 PB4 (power), 29 PB5 (power), 30 PB6 (power), 31 PB7 (power), 32 PF0 (power), 33 PD4 (power), 34 PD5 (power), 35 PD6 (power), 36 PD7 (power), 37 PC0 (power), 38 PC1 (power), 39 VDD2 (power), 40 VSS2 (power), 41 PC2 (power), 42 PC3 (power), 43 PC4 (power), 44 PC5 (power), 45 PC6 (power), 46 PC7 (power), 47 PE6 (power), 48 PE7 (power)

## STM8S003F3P6
designator U?
ST 8-bit  Microcontroller
footprint TSSOP20 (20-pin, 4.40 mm body, 0.65 mm pitch)
pins: 1 PD4(HS)/BEEP/TIM2_CH1/UART1_CK (io), 2 PD5(HS)/AIN5/UART1_TX (io), 3 PD6(HS)/AIN6/UART1_RX (io), 4 ~{NRST} (io), 5 OSCIN/PA1 (io), 6 OSCOUT/PA2 (io), 7 VSS (power), 8 VCAP (power), 9 VDD (power), 10 PA3(HS)/TIM2_CH3/[SPI_NSS]   (io), 11 [TIM1_BKIN]I2C_SDA /(T)PB5 (io), 12 [ADC_ETR]I2C_SCL/(T)PB4 (io), 13 [TIM1_CH1N][TLI]/TIM1_CH3/(HS)PC3 (io), 14 [TIM1_CH2N]AIN2/CLK_CCO/TIM1_CH4/(HS)PC4 (io), 15 [TIM2_CH1]SPI_SCK/(HS)PC5 (io), 16 [TIM1_CH1]/SPI_MOSI/(HS)PC6 (io), 17 [TIM1_CH2]SPI_MISO/(HS)PC7 (io), 18 SWIM/(HS)PD1 (io), 19 [TIM2_CH3]/AIN3/(HS)PD2 (io), 20 ADC_ETR/TIM2_CH2/AIN4/(HS)PD3 (io)

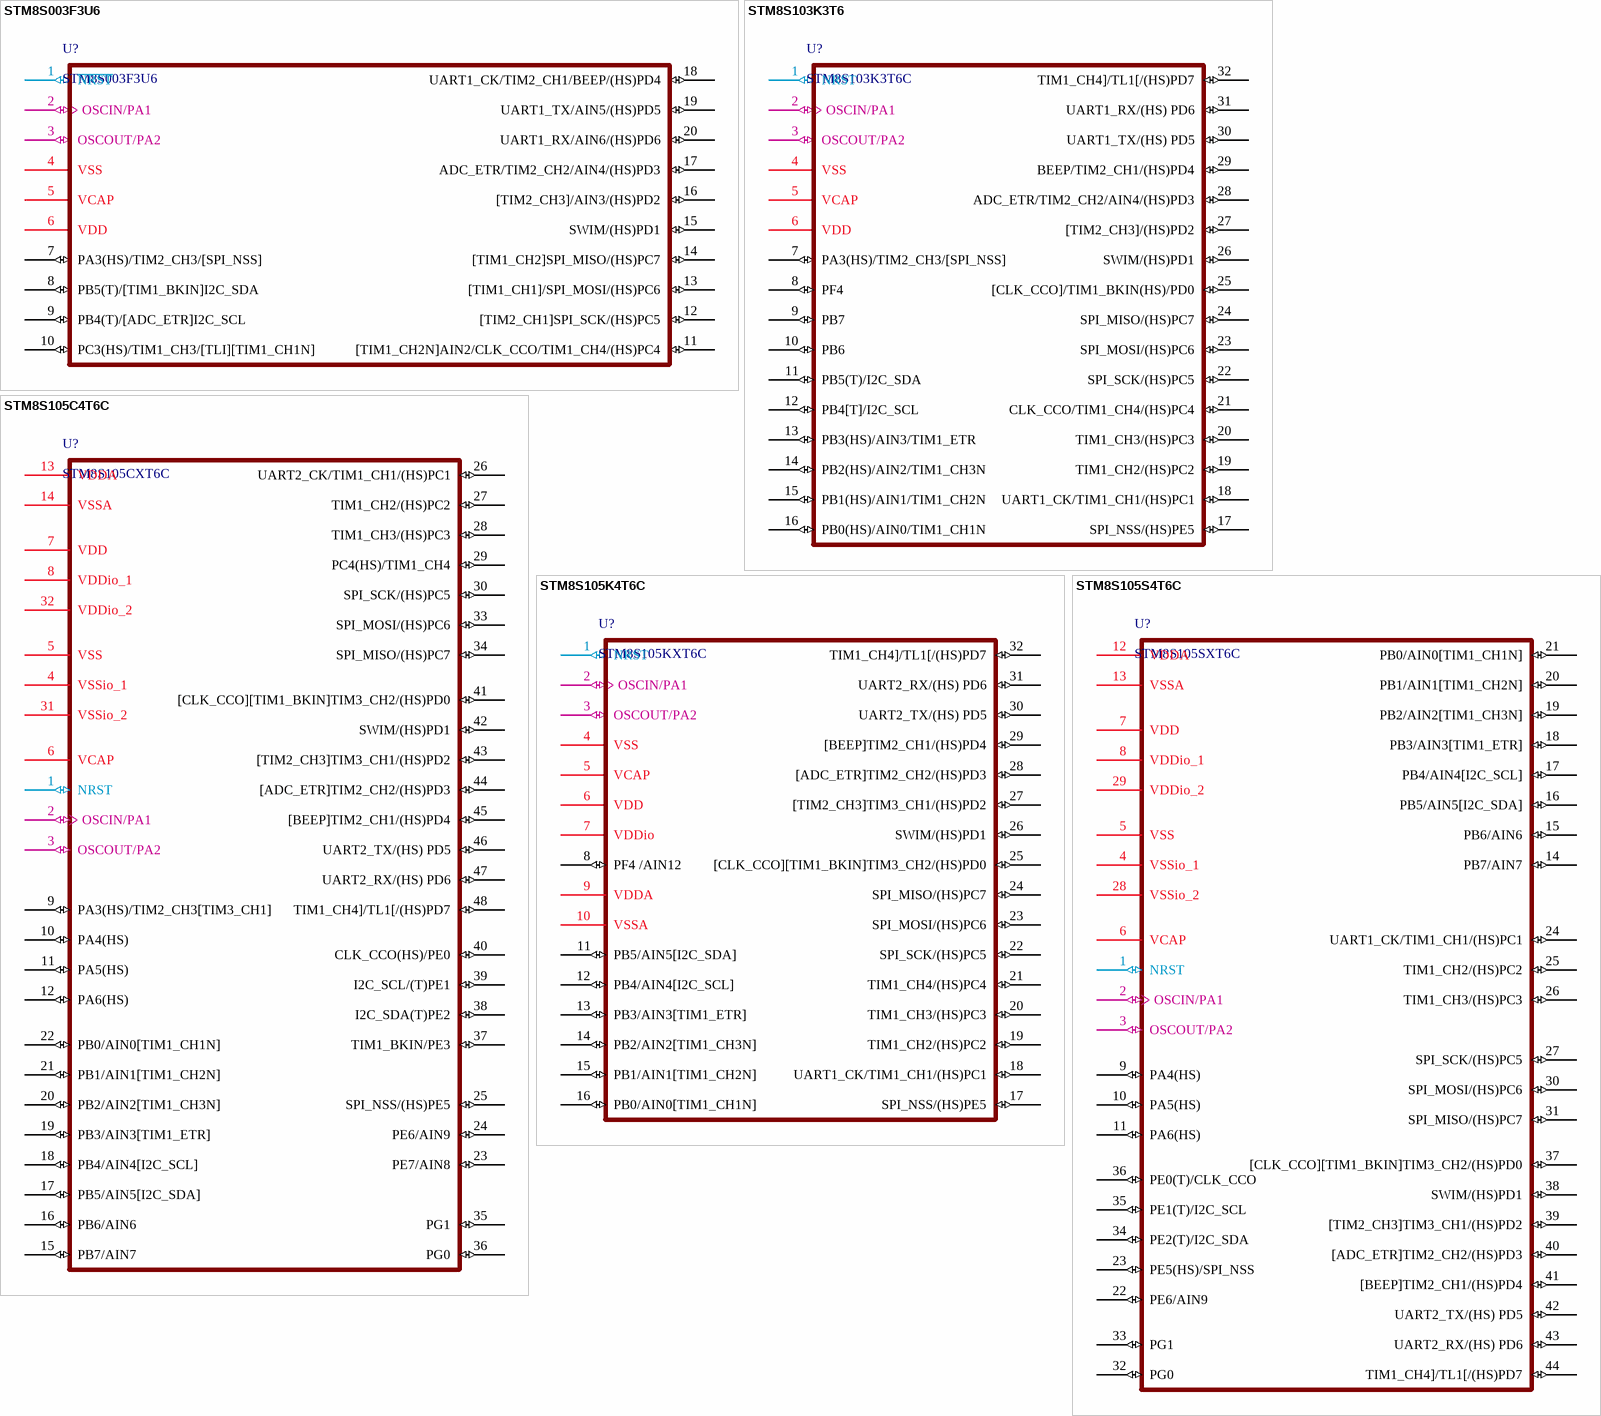
[diagram p3: symbols STM8S003F3U6 to STM8S105S4T6C]

## STM8S003F3U6
designator U?
ST 8-bit  Microcontroller
footprint UFQFPN20
pins: 1 ~{NRST} (io), 2 OSCIN/PA1 (io), 3 OSCOUT/PA2 (io), 4 VSS (power), 5 VCAP (power), 6 VDD (power), 7 PA3(HS)/TIM2_CH3/[SPI_NSS]   (io), 8 PB5(T)/[TIM1_BKIN]I2C_SDA (io), 9 PB4(T)/[ADC_ETR]I2C_SCL (io), 10 PC3(HS)/TIM1_CH3/[TLI][TIM1_CH1N] (io), 11 [TIM1_CH2N]AIN2/CLK_CCO/TIM1_CH4/(HS)PC4 (io), 12 [TIM2_CH1]SPI_SCK/(HS)PC5 (io), 13 [TIM1_CH1]/SPI_MOSI/(HS)PC6 (io), 14 [TIM1_CH2]SPI_MISO/(HS)PC7 (io), 15 SWIM/(HS)PD1 (io), 16 [TIM2_CH3]/AIN3/(HS)PD2 (io), 17 ADC_ETR/TIM2_CH2/AIN4/(HS)PD3 (io), 18 UART1_CK/TIM2_CH1/BEEP/(HS)PD4 (io), 19 UART1_TX/AIN5/(HS)PD5 (io), 20 UART1_RX/AIN6/(HS)PD6 (io)

## STM8S103K3T6
designator U?, comment STM8S103K3T6C
ST 8-bit  Microcontroller
footprint TQFP32 (Thin QFP, 32-Leads, Body 7x7mm, Pitch 0.8mm, IPC Low Density)
pins: 1 NRST (io), 2 OSCIN/PA1 (io), 3 OSCOUT/PA2 (io), 4 VSS (power), 5 VCAP (power), 6 VDD (power), 7 PA3(HS)/TIM2_CH3/[SPI_NSS]   (io), 8 PF4  (io), 9 PB7 (io), 10 PB6 (io), 11 PB5(T)/I2C_SDA (io), 12 PB4[T]/I2C_SCL (io), 13 PB3(HS)/AIN3/TIM1_ETR (io), 14 PB2(HS)/AIN2/TIM1_CH3N (io), 15 PB1(HS)/AIN1/TIM1_CH2N (io), 16 PB0(HS)/AIN0/TIM1_CH1N (io), 17 SPI_NSS/(HS)PE5 (io), 18 UART1_CK/TIM1_CH1/(HS)PC1 (io), 19 TIM1_CH2/(HS)PC2 (io), 20 TIM1_CH3/(HS)PC3 (io), 21 CLK_CCO/TIM1_CH4/(HS)PC4 (io), 22 SPI_SCK/(HS)PC5 (io), 23 SPI_MOSI/(HS)PC6 (io), 24 SPI_MISO/(HS)PC7 (io), 25 [CLK_CCO]/TIM1_BKIN(HS)/PD0 (io), 26 SWIM/(HS)PD1 (io), 27 [TIM2_CH3]/(HS)PD2 (io), 28 ADC_ETR/TIM2_CH2/AIN4/(HS)PD3 (io), 29 BEEP/TIM2_CH1/(HS)PD4 (io), 30 UART1_TX/(HS) PD5 (io), 31 UART1_RX/(HS) PD6 (io), 32 TIM1_CH4]/TL1[/(HS)PD7 (io)

## STM8S105C4T6C
designator U?, comment STM8S105CXT6C
ST 8-bit  Microcontroller
footprint LQFP48
pins: 1 NRST (io), 2 OSCIN/PA1 (io), 3 OSCOUT/PA2 (io), 4 VSSio_1 (power), 5 VSS (power), 6 VCAP (power), 7 VDD (power), 8 VDDio_1 (power), 9 PA3(HS)/TIM2_CH3[TIM3_CH1] (io), 10 PA4(HS) (io), 11 PA5(HS) (io), 12 PA6(HS) (io), 13 VDDA (power), 14 VSSA (power), 15 PB7/AIN7 (io), 16 PB6/AIN6 (io), 17 PB5/AIN5[I2C_SDA] (io), 18 PB4/AIN4[I2C_SCL] (io), 19 PB3/AIN3[TIM1_ETR] (io), 20 PB2/AIN2[TIM1_CH3N] (io), 21 PB1/AIN1[TIM1_CH2N] (io), 22 PB0/AIN0[TIM1_CH1N] (io), 23 PE7/AIN8 (io), 24 PE6/AIN9 (io), 25 SPI_NSS/(HS)PE5 (io), 26 UART2_CK/TIM1_CH1/(HS)PC1 (io), 27 TIM1_CH2/(HS)PC2 (io), 28 TIM1_CH3/(HS)PC3 (io), 29 PC4(HS)/TIM1_CH4 (io), 30 SPI_SCK/(HS)PC5 (io), 31 VSSio_2 (power), 32 VDDio_2 (power), 33 SPI_MOSI/(HS)PC6 (io), 34 SPI_MISO/(HS)PC7 (io), 35 PG1 (io), 36 PG0 (io), 37 TIM1_BKIN/PE3 (io), 38 I2C_SDA(T)PE2 (io), 39 I2C_SCL/(T)PE1 (io), 40 CLK_CCO(HS)/PE0 (io), 41 [CLK_CCO][TIM1_BKIN]TIM3_CH2/(HS)PD0 (io), 42 SWIM/(HS)PD1 (io), 43 [TIM2_CH3]TIM3_CH1/(HS)PD2 (io), 44 [ADC_ETR]TIM2_CH2/(HS)PD3 (io), 45 [BEEP]TIM2_CH1/(HS)PD4 (io), 46 UART2_TX/(HS) PD5 (io), 47 UART2_RX/(HS) PD6 (io), 48 TIM1_CH4]/TL1[/(HS)PD7 (io)
1 alternate drawing of the same symbol

## STM8S105K4T6C
designator U?, comment STM8S105KXT6C
ST 8-bit  Microcontroller
footprint TQFP32 (Thin QFP, 32-Leads, Body 7x7mm, Pitch 0.8mm, IPC Low Density)
pins: 1 NRST (io), 2 OSCIN/PA1 (io), 3 OSCOUT/PA2 (io), 4 VSS (power), 5 VCAP (power), 6 VDD (power), 7 VDDio (power), 8 PF4 /AIN12 (io), 9 VDDA (power), 10 VSSA (power), 11 PB5/AIN5[I2C_SDA] (io), 12 PB4/AIN4[I2C_SCL] (io), 13 PB3/AIN3[TIM1_ETR] (io), 14 PB2/AIN2[TIM1_CH3N] (io), 15 PB1/AIN1[TIM1_CH2N] (io), 16 PB0/AIN0[TIM1_CH1N] (io), 17 SPI_NSS/(HS)PE5 (io), 18 UART1_CK/TIM1_CH1/(HS)PC1 (io), 19 TIM1_CH2/(HS)PC2 (io), 20 TIM1_CH3/(HS)PC3 (io), 21 TIM1_CH4/(HS)PC4 (io), 22 SPI_SCK/(HS)PC5 (io), 23 SPI_MOSI/(HS)PC6 (io), 24 SPI_MISO/(HS)PC7 (io), 25 [CLK_CCO][TIM1_BKIN]TIM3_CH2/(HS)PD0 (io), 26 SWIM/(HS)PD1 (io), 27 [TIM2_CH3]TIM3_CH1/(HS)PD2 (io), 28 [ADC_ETR]TIM2_CH2/(HS)PD3 (io), 29 [BEEP]TIM2_CH1/(HS)PD4 (io), 30 UART2_TX/(HS) PD5 (io), 31 UART2_RX/(HS) PD6 (io), 32 TIM1_CH4]/TL1[/(HS)PD7 (io)

## STM8S105S4T6C
designator U?, comment STM8S105SXT6C
ST 8-bit  Microcontroller
footprint TQFP44 (Thin QFP, 44-Leads, Body 10x10mm, Pitch 0.8mm, IPC Low Density)
pins: 1 NRST (io), 2 OSCIN/PA1 (io), 3 OSCOUT/PA2 (io), 4 VSSio_1 (power), 5 VSS (power), 6 VCAP (power), 7 VDD (power), 8 VDDio_1 (power), 9 PA4(HS) (io), 10 PA5(HS) (io), 11 PA6(HS) (io), 12 VDDA (power), 13 VSSA (power), 14 PB7/AIN7 (io), 15 PB6/AIN6 (io), 16 PB5/AIN5[I2C_SDA] (io), 17 PB4/AIN4[I2C_SCL] (io), 18 PB3/AIN3[TIM1_ETR] (io), 19 PB2/AIN2[TIM1_CH3N] (io), 20 PB1/AIN1[TIM1_CH2N] (io), 21 PB0/AIN0[TIM1_CH1N] (io), 22 PE6/AIN9 (io), 23 PE5(HS)/SPI_NSS (io), 24 UART1_CK/TIM1_CH1/(HS)PC1 (io), 25 TIM1_CH2/(HS)PC2 (io), 26 TIM1_CH3/(HS)PC3 (io), 27 SPI_SCK/(HS)PC5 (io), 28 VSSio_2 (power), 29 VDDio_2 (power), 30 SPI_MOSI/(HS)PC6 (io), 31 SPI_MISO/(HS)PC7 (io), 32 PG0 (io), 33 PG1 (io), 34 PE2(T)/I2C_SDA (io), 35 PE1(T)/I2C_SCL (io), 36 PE0(T)/CLK_CCO (io), 37 [CLK_CCO][TIM1_BKIN]TIM3_CH2/(HS)PD0 (io), 38 SWIM/(HS)PD1 (io), 39 [TIM2_CH3]TIM3_CH1/(HS)PD2 (io), 40 [ADC_ETR]TIM2_CH2/(HS)PD3 (io), 41 [BEEP]TIM2_CH1/(HS)PD4 (io), 42 UART2_TX/(HS) PD5 (io), 43 UART2_RX/(HS) PD6 (io), 44 TIM1_CH4]/TL1[/(HS)PD7 (io)

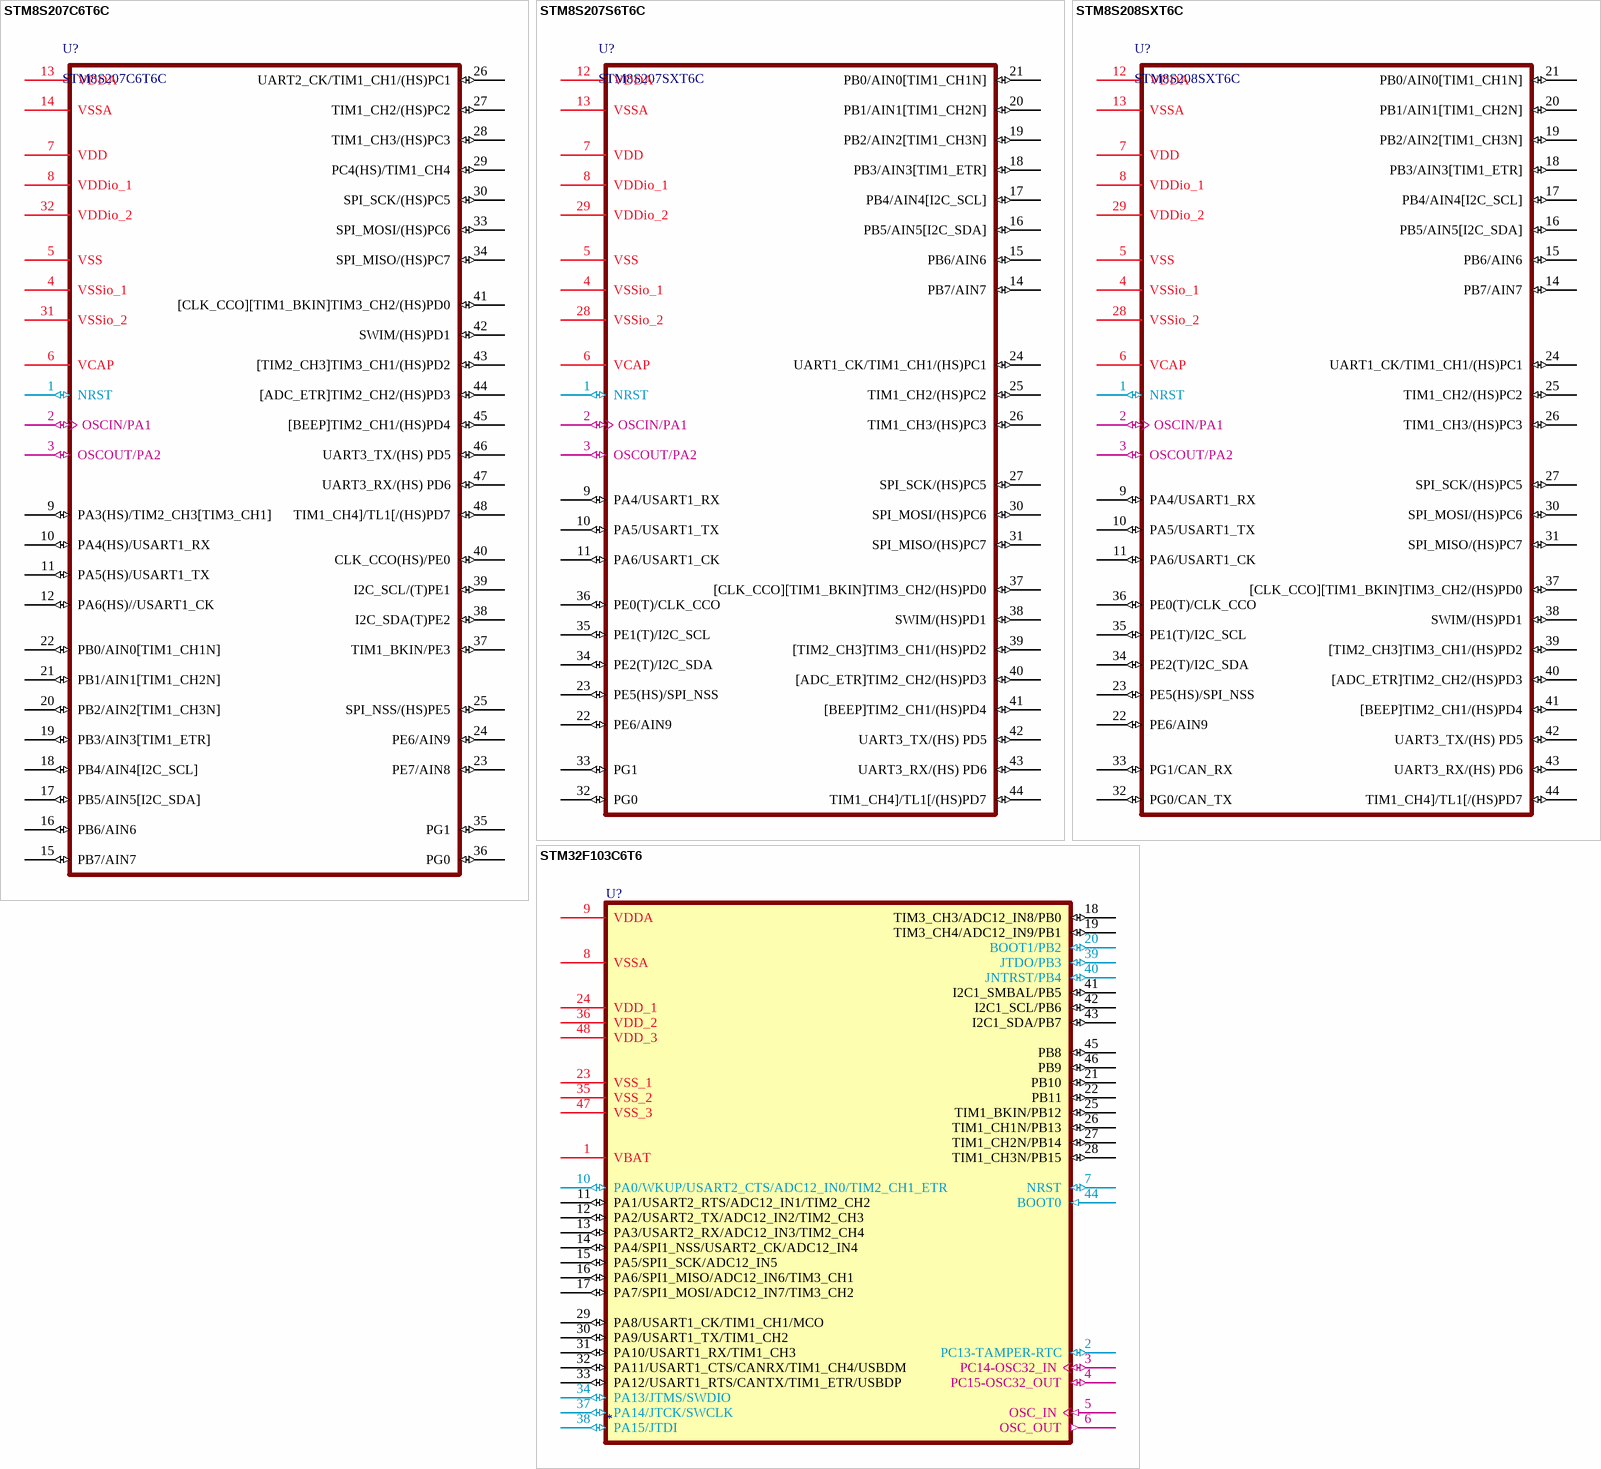
[diagram p4: symbols STM8S207C6T6C to STM32F103C6T6]

## STM8S207C6T6C
designator U?
ST 8-bit  Microcontroller
footprint LQFP48
pins: 1 NRST (io), 2 OSCIN/PA1 (io), 3 OSCOUT/PA2 (io), 4 VSSio_1 (power), 5 VSS (power), 6 VCAP (power), 7 VDD (power), 8 VDDio_1 (power), 9 PA3(HS)/TIM2_CH3[TIM3_CH1] (io), 10 PA4(HS)/USART1_RX (io), 11 PA5(HS)/USART1_TX (io), 12 PA6(HS)//USART1_CK (io), 13 VDDA (power), 14 VSSA (power), 15 PB7/AIN7 (io), 16 PB6/AIN6 (io), 17 PB5/AIN5[I2C_SDA] (io), 18 PB4/AIN4[I2C_SCL] (io), 19 PB3/AIN3[TIM1_ETR] (io), 20 PB2/AIN2[TIM1_CH3N] (io), 21 PB1/AIN1[TIM1_CH2N] (io), 22 PB0/AIN0[TIM1_CH1N] (io), 23 PE7/AIN8 (io), 24 PE6/AIN9 (io), 25 SPI_NSS/(HS)PE5 (io), 26 UART2_CK/TIM1_CH1/(HS)PC1 (io), 27 TIM1_CH2/(HS)PC2 (io), 28 TIM1_CH3/(HS)PC3 (io), 29 PC4(HS)/TIM1_CH4 (io), 30 SPI_SCK/(HS)PC5 (io), 31 VSSio_2 (power), 32 VDDio_2 (power), 33 SPI_MOSI/(HS)PC6 (io), 34 SPI_MISO/(HS)PC7 (io), 35 PG1 (io), 36 PG0 (io), 37 TIM1_BKIN/PE3 (io), 38 I2C_SDA(T)PE2 (io), 39 I2C_SCL/(T)PE1 (io), 40 CLK_CCO(HS)/PE0 (io), 41 [CLK_CCO][TIM1_BKIN]TIM3_CH2/(HS)PD0 (io), 42 SWIM/(HS)PD1 (io), 43 [TIM2_CH3]TIM3_CH1/(HS)PD2 (io), 44 [ADC_ETR]TIM2_CH2/(HS)PD3 (io), 45 [BEEP]TIM2_CH1/(HS)PD4 (io), 46 UART3_TX/(HS) PD5 (io), 47 UART3_RX/(HS) PD6 (io), 48 TIM1_CH4]/TL1[/(HS)PD7 (io)

## STM8S207S6T6C
designator U?, comment STM8S207SXT6C
ST 8-bit  Microcontroller
footprint TQFP44 (Thin QFP, 44-Leads, Body 10x10mm, Pitch 0.8mm, IPC Low Density)
pins: 1 NRST (io), 2 OSCIN/PA1 (io), 3 OSCOUT/PA2 (io), 4 VSSio_1 (power), 5 VSS (power), 6 VCAP (power), 7 VDD (power), 8 VDDio_1 (power), 9 PA4/USART1_RX (io), 10 PA5/USART1_TX (io), 11 PA6/USART1_CK (io), 12 VDDA (power), 13 VSSA (power), 14 PB7/AIN7 (io), 15 PB6/AIN6 (io), 16 PB5/AIN5[I2C_SDA] (io), 17 PB4/AIN4[I2C_SCL] (io), 18 PB3/AIN3[TIM1_ETR] (io), 19 PB2/AIN2[TIM1_CH3N] (io), 20 PB1/AIN1[TIM1_CH2N] (io), 21 PB0/AIN0[TIM1_CH1N] (io), 22 PE6/AIN9 (io), 23 PE5(HS)/SPI_NSS (io), 24 UART1_CK/TIM1_CH1/(HS)PC1 (io), 25 TIM1_CH2/(HS)PC2 (io), 26 TIM1_CH3/(HS)PC3 (io), 27 SPI_SCK/(HS)PC5 (io), 28 VSSio_2 (power), 29 VDDio_2 (power), 30 SPI_MOSI/(HS)PC6 (io), 31 SPI_MISO/(HS)PC7 (io), 32 PG0 (io), 33 PG1 (io), 34 PE2(T)/I2C_SDA (io), 35 PE1(T)/I2C_SCL (io), 36 PE0(T)/CLK_CCO (io), 37 [CLK_CCO][TIM1_BKIN]TIM3_CH2/(HS)PD0 (io), 38 SWIM/(HS)PD1 (io), 39 [TIM2_CH3]TIM3_CH1/(HS)PD2 (io), 40 [ADC_ETR]TIM2_CH2/(HS)PD3 (io), 41 [BEEP]TIM2_CH1/(HS)PD4 (io), 42 UART3_TX/(HS) PD5 (io), 43 UART3_RX/(HS) PD6 (io), 44 TIM1_CH4]/TL1[/(HS)PD7 (io)

## STM8S208SXT6C
designator U?
ST 8-bit  Microcontroller
footprint TQFP44 (Thin QFP, 44-Leads, Body 10x10mm, Pitch 0.8mm, IPC Low Density)
pins: 1 NRST (io), 2 OSCIN/PA1 (io), 3 OSCOUT/PA2 (io), 4 VSSio_1 (power), 5 VSS (power), 6 VCAP (power), 7 VDD (power), 8 VDDio_1 (power), 9 PA4/USART1_RX (io), 10 PA5/USART1_TX (io), 11 PA6/USART1_CK (io), 12 VDDA (power), 13 VSSA (power), 14 PB7/AIN7 (io), 15 PB6/AIN6 (io), 16 PB5/AIN5[I2C_SDA] (io), 17 PB4/AIN4[I2C_SCL] (io), 18 PB3/AIN3[TIM1_ETR] (io), 19 PB2/AIN2[TIM1_CH3N] (io), 20 PB1/AIN1[TIM1_CH2N] (io), 21 PB0/AIN0[TIM1_CH1N] (io), 22 PE6/AIN9 (io), 23 PE5(HS)/SPI_NSS (io), 24 UART1_CK/TIM1_CH1/(HS)PC1 (io), 25 TIM1_CH2/(HS)PC2 (io), 26 TIM1_CH3/(HS)PC3 (io), 27 SPI_SCK/(HS)PC5 (io), 28 VSSio_2 (power), 29 VDDio_2 (power), 30 SPI_MOSI/(HS)PC6 (io), 31 SPI_MISO/(HS)PC7 (io), 32 PG0/CAN_TX (io), 33 PG1/CAN_RX (io), 34 PE2(T)/I2C_SDA (io), 35 PE1(T)/I2C_SCL (io), 36 PE0(T)/CLK_CCO (io), 37 [CLK_CCO][TIM1_BKIN]TIM3_CH2/(HS)PD0 (io), 38 SWIM/(HS)PD1 (io), 39 [TIM2_CH3]TIM3_CH1/(HS)PD2 (io), 40 [ADC_ETR]TIM2_CH2/(HS)PD3 (io), 41 [BEEP]TIM2_CH1/(HS)PD4 (io), 42 UART3_TX/(HS) PD5 (io), 43 UART3_RX/(HS) PD6 (io), 44 TIM1_CH4]/TL1[/(HS)PD7 (io)

## STM32F103C6T6
designator U?
STM32 ARM-based 32-bit MCU with 32 Kbytes Flash, 48-pin LQFP, Industrial Temperature; Published: *; DatasheetVersion: *; PackageVersion: *; PackageReference: *; Publisher: *; PackageDescription: *; ComponentLink1Description: *; ComponentLink1URL: *; ComponentLink2Description: *; ComponentLink2URL: *
footprint LQFP48
pins: 1 VBAT (power), 2 PC13-TAMPER-RTC (io), 3 PC14-OSC32_IN (io), 4 PC15-OSC32_OUT (io), 5 OSC_IN (in), 6 OSC_OUT (out), 7 NRST (io), 8 VSSA (power), 9 VDDA (power), 10 PA0/WKUP/USART2_CTS/ADC12_IN0/TIM2_CH1_ETR (io), 11 PA1/USART2_RTS/ADC12_IN1/TIM2_CH2 (io), 12 PA2/USART2_TX/ADC12_IN2/TIM2_CH3 (io), 13 PA3/USART2_RX/ADC12_IN3/TIM2_CH4 (io), 14 PA4/SPI1_NSS/USART2_CK/ADC12_IN4 (io), 15 PA5/SPI1_SCK/ADC12_IN5 (io), 16 PA6/SPI1_MISO/ADC12_IN6/TIM3_CH1 (io), 17 PA7/SPI1_MOSI/ADC12_IN7/TIM3_CH2 (io), 18 TIM3_CH3/ADC12_IN8/PB0 (io), 19 TIM3_CH4/ADC12_IN9/PB1 (io), 20 BOOT1/PB2 (io), 21 PB10 (io), 22 PB11 (io), 23 VSS_1 (power), 24 VDD_1 (power), 25 TIM1_BKIN/PB12 (io), 26 TIM1_CH1N/PB13 (io), 27 TIM1_CH2N/PB14 (io), 28 TIM1_CH3N/PB15 (io), 29 PA8/USART1_CK/TIM1_CH1/MCO (io), 30 PA9/USART1_TX/TIM1_CH2 (io), 31 PA10/USART1_RX/TIM1_CH3 (io), 32 PA11/USART1_CTS/CANRX/TIM1_CH4/USBDM (io), 33 PA12/USART1_RTS/CANTX/TIM1_ETR/USBDP (io), 34 PA13/JTMS/SWDIO (io), 35 VSS_2 (power), 36 VDD_2 (power), 37 PA14/JTCK/SWCLK (io), 38 PA15/JTDI (io), 39 JTDO/PB3 (io), 40 JNTRST/PB4 (io), 41 I2C1_SMBAL/PB5 (io), 42 I2C1_SCL/PB6 (io), 43 I2C1_SDA/PB7 (io), 44 BOOT0 (in), 45 PB8 (io), 46 PB9 (io), 47 VSS_3 (power), 48 VDD_3 (power)
2 alternate drawings of the same symbol

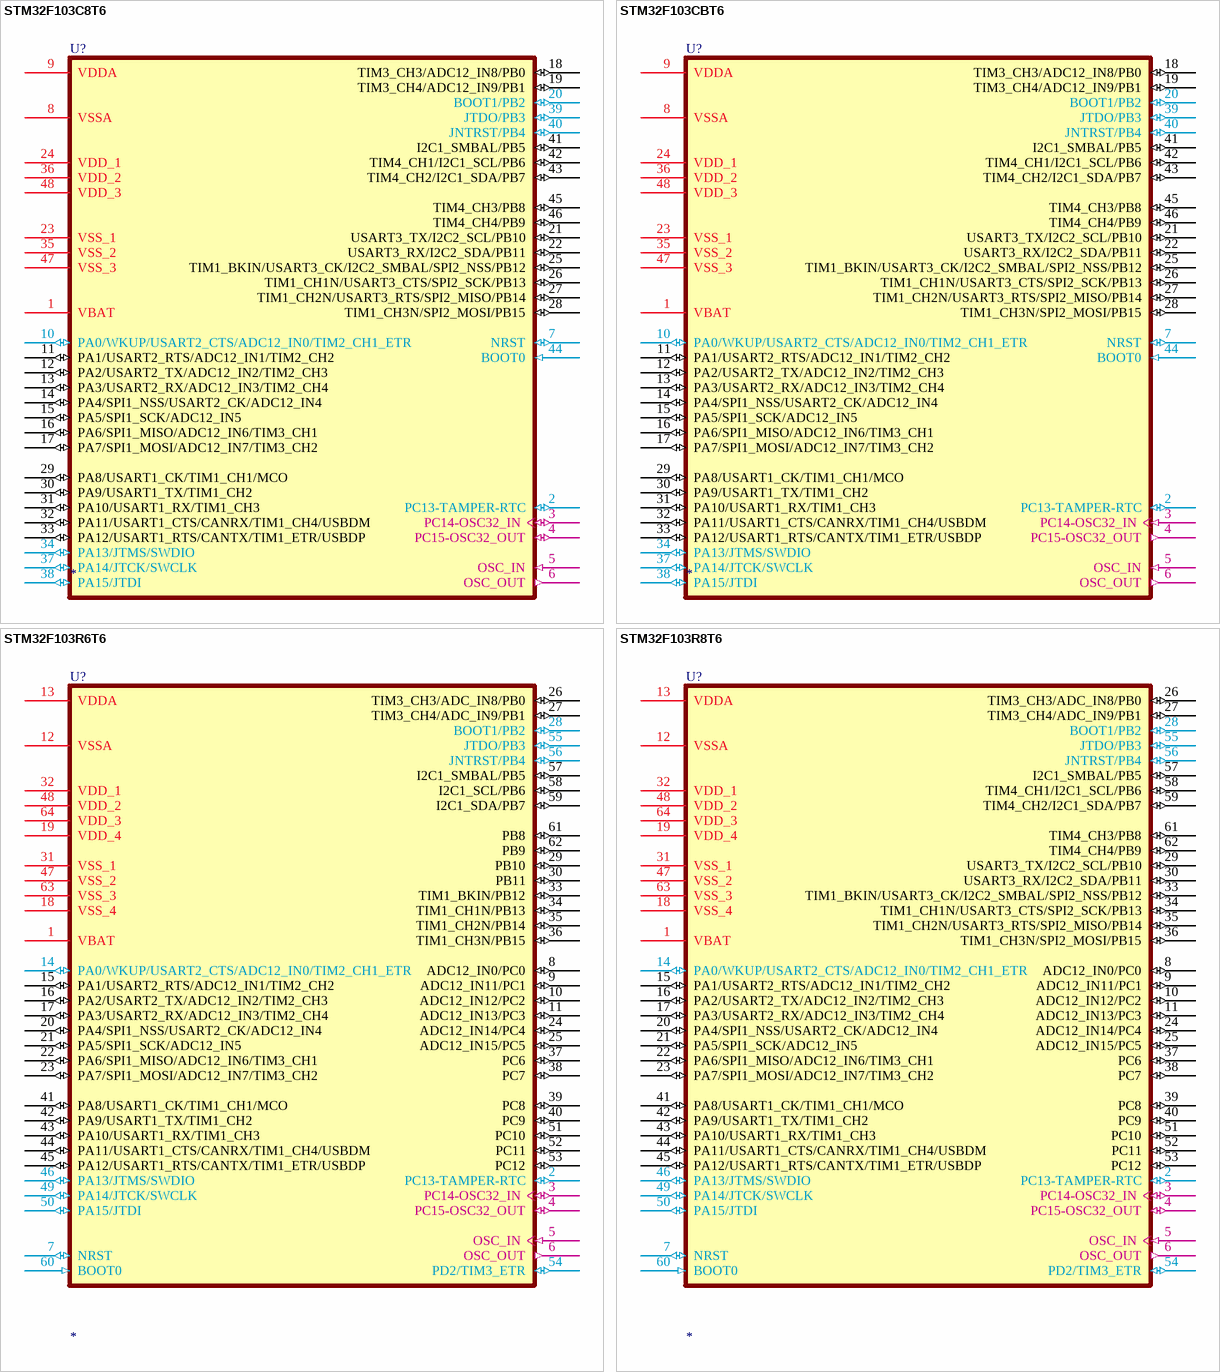
[diagram p5: symbols STM32F103C8T6 to STM32F103R8T6]

## STM32F103C8T6
designator U?
STM32 ARM-based 32-bit MCU with 64 Kbytes Flash, 48-pin LQFP, Industrial Temperature; Published: *; DatasheetVersion: *; PackageVersion: *; PackageReference: *; Publisher: *; PackageDescription: *; ComponentLink1Description: *; ComponentLink1URL: *; ComponentLink2Description: *; ComponentLink2URL: *
footprint LQFP48
pins: 1 VBAT (power), 2 PC13-TAMPER-RTC (io), 3 PC14-OSC32_IN (io), 4 PC15-OSC32_OUT (io), 5 OSC_IN (in), 6 OSC_OUT (out), 7 NRST (io), 8 VSSA (power), 9 VDDA (power), 10 PA0/WKUP/USART2_CTS/ADC12_IN0/TIM2_CH1_ETR (io), 11 PA1/USART2_RTS/ADC12_IN1/TIM2_CH2 (io), 12 PA2/USART2_TX/ADC12_IN2/TIM2_CH3 (io), 13 PA3/USART2_RX/ADC12_IN3/TIM2_CH4 (io), 14 PA4/SPI1_NSS/USART2_CK/ADC12_IN4 (io), 15 PA5/SPI1_SCK/ADC12_IN5 (io), 16 PA6/SPI1_MISO/ADC12_IN6/TIM3_CH1 (io), 17 PA7/SPI1_MOSI/ADC12_IN7/TIM3_CH2 (io), 18 TIM3_CH3/ADC12_IN8/PB0 (io), 19 TIM3_CH4/ADC12_IN9/PB1 (io), 20 BOOT1/PB2 (io), 21 USART3_TX/I2C2_SCL/PB10 (io), 22 USART3_RX/I2C2_SDA/PB11 (io), 23 VSS_1 (power), 24 VDD_1 (power), 25 TIM1_BKIN/USART3_CK/I2C2_SMBAL/SPI2_NSS/PB12 (io), 26 TIM1_CH1N/USART3_CTS/SPI2_SCK/PB13 (io), 27 TIM1_CH2N/USART3_RTS/SPI2_MISO/PB14 (io), 28 TIM1_CH3N/SPI2_MOSI/PB15 (io), 29 PA8/USART1_CK/TIM1_CH1/MCO (io), 30 PA9/USART1_TX/TIM1_CH2 (io), 31 PA10/USART1_RX/TIM1_CH3 (io), 32 PA11/USART1_CTS/CANRX/TIM1_CH4/USBDM (io), 33 PA12/USART1_RTS/CANTX/TIM1_ETR/USBDP (io), 34 PA13/JTMS/SWDIO (io), 35 VSS_2 (power), 36 VDD_2 (power), 37 PA14/JTCK/SWCLK (io), 38 PA15/JTDI (io), 39 JTDO/PB3 (io), 40 JNTRST/PB4 (io), 41 I2C1_SMBAL/PB5 (io), 42 TIM4_CH1/I2C1_SCL/PB6 (io), 43 TIM4_CH2/I2C1_SDA/PB7 (io), 44 BOOT0 (in), 45 TIM4_CH3/PB8 (io), 46 TIM4_CH4/PB9 (io), 47 VSS_3 (power), 48 VDD_3 (power)
2 alternate drawings of the same symbol

## STM32F103CBT6
designator U?
STM32 ARM-based 32-bit MCU with 128 Kbytes Flash, 48-pin LQFP, Industrial Temperature; Published: *; DatasheetVersion: *; PackageVersion: *; PackageReference: *; Publisher: *; PackageDescription: *; ComponentLink1Description: *; ComponentLink1URL: *; ComponentLink2Description: *; ComponentLink2URL: *
footprint LQFP48
pins: 1 VBAT (power), 2 PC13-TAMPER-RTC (io), 3 PC14-OSC32_IN (in), 4 PC15-OSC32_OUT (out), 5 OSC_IN (in), 6 OSC_OUT (out), 7 NRST (io), 8 VSSA (power), 9 VDDA (power), 10 PA0/WKUP/USART2_CTS/ADC12_IN0/TIM2_CH1_ETR (io), 11 PA1/USART2_RTS/ADC12_IN1/TIM2_CH2 (io), 12 PA2/USART2_TX/ADC12_IN2/TIM2_CH3 (io), 13 PA3/USART2_RX/ADC12_IN3/TIM2_CH4 (io), 14 PA4/SPI1_NSS/USART2_CK/ADC12_IN4 (io), 15 PA5/SPI1_SCK/ADC12_IN5 (io), 16 PA6/SPI1_MISO/ADC12_IN6/TIM3_CH1 (io), 17 PA7/SPI1_MOSI/ADC12_IN7/TIM3_CH2 (io), 18 TIM3_CH3/ADC12_IN8/PB0 (io), 19 TIM3_CH4/ADC12_IN9/PB1 (io), 20 BOOT1/PB2 (io), 21 USART3_TX/I2C2_SCL/PB10 (io), 22 USART3_RX/I2C2_SDA/PB11 (io), 23 VSS_1 (power), 24 VDD_1 (power), 25 TIM1_BKIN/USART3_CK/I2C2_SMBAL/SPI2_NSS/PB12 (io), 26 TIM1_CH1N/USART3_CTS/SPI2_SCK/PB13 (io), 27 TIM1_CH2N/USART3_RTS/SPI2_MISO/PB14 (io), 28 TIM1_CH3N/SPI2_MOSI/PB15 (io), 29 PA8/USART1_CK/TIM1_CH1/MCO (io), 30 PA9/USART1_TX/TIM1_CH2 (io), 31 PA10/USART1_RX/TIM1_CH3 (io), 32 PA11/USART1_CTS/CANRX/TIM1_CH4/USBDM (io), 33 PA12/USART1_RTS/CANTX/TIM1_ETR/USBDP (io), 34 PA13/JTMS/SWDIO (io), 35 VSS_2 (power), 36 VDD_2 (power), 37 PA14/JTCK/SWCLK (io), 38 PA15/JTDI (io), 39 JTDO/PB3 (io), 40 JNTRST/PB4 (io), 41 I2C1_SMBAL/PB5 (io), 42 TIM4_CH1/I2C1_SCL/PB6 (io), 43 TIM4_CH2/I2C1_SDA/PB7 (io), 44 BOOT0 (in), 45 TIM4_CH3/PB8 (io), 46 TIM4_CH4/PB9 (io), 47 VSS_3 (power), 48 VDD_3 (power)
2 alternate drawings of the same symbol

## STM32F103R6T6
designator U?
STM32 ARM-based 32-bit MCU with 32 Kbytes Flash, 64-pin LQFP, Industrial Temperature; Published: *; DatasheetVersion: *; PackageVersion: *; PackageReference: *; Publisher: *; PackageDescription: *; ComponentLink1Description: *; ComponentLink1URL: *; ComponentLink2Description: *; ComponentLink2URL: *
footprint LQFP64
pins: 1 VBAT (power), 2 PC13-TAMPER-RTC (io), 3 PC14-OSC32_IN (io), 4 PC15-OSC32_OUT (io), 5 OSC_IN (in), 6 OSC_OUT (out), 7 NRST (io), 8 ADC12_IN0/PC0 (io), 9 ADC12_IN11/PC1 (io), 10 ADC12_IN12/PC2 (io), 11 ADC12_IN13/PC3 (io), 12 VSSA (power), 13 VDDA (power), 14 PA0/WKUP/USART2_CTS/ADC12_IN0/TIM2_CH1_ETR (io), 15 PA1/USART2_RTS/ADC12_IN1/TIM2_CH2 (io), 16 PA2/USART2_TX/ADC12_IN2/TIM2_CH3 (io), 17 PA3/USART2_RX/ADC12_IN3/TIM2_CH4 (io), 18 VSS_4 (power), 19 VDD_4 (power), 20 PA4/SPI1_NSS/USART2_CK/ADC12_IN4 (io), 21 PA5/SPI1_SCK/ADC12_IN5 (io), 22 PA6/SPI1_MISO/ADC12_IN6/TIM3_CH1 (io), 23 PA7/SPI1_MOSI/ADC12_IN7/TIM3_CH2 (io), 24 ADC12_IN14/PC4 (io), 25 ADC12_IN15/PC5 (io), 26 TIM3_CH3/ADC_IN8/PB0 (io), 27 TIM3_CH4/ADC_IN9/PB1 (io), 28 BOOT1/PB2 (io), 29 PB10 (io), 30 PB11 (io), 31 VSS_1 (power), 32 VDD_1 (power), 33 TIM1_BKIN/PB12 (io), 34 TIM1_CH1N/PB13 (io), 35 TIM1_CH2N/PB14 (io), 36 TIM1_CH3N/PB15 (io), 37 PC6 (io), 38 PC7 (io), 39 PC8 (io), 40 PC9 (io), 41 PA8/USART1_CK/TIM1_CH1/MCO (io), 42 PA9/USART1_TX/TIM1_CH2 (io), 43 PA10/USART1_RX/TIM1_CH3 (io), 44 PA11/USART1_CTS/CANRX/TIM1_CH4/USBDM (io), 45 PA12/USART1_RTS/CANTX/TIM1_ETR/USBDP (io), 46 PA13/JTMS/SWDIO (io), 47 VSS_2 (power), 48 VDD_2 (power), 49 PA14/JTCK/SWCLK (io), 50 PA15/JTDI (io), 51 PC10 (io), 52 PC11 (io), 53 PC12 (io), 54 PD2/TIM3_ETR (io), 55 JTDO/PB3 (io), 56 JNTRST/PB4 (io), 57 I2C1_SMBAL/PB5 (io), 58 I2C1_SCL/PB6 (io), 59 I2C1_SDA/PB7 (io), 60 BOOT0 (in), 61 PB8 (io), 62 PB9 (io), 63 VSS_3 (power), 64 VDD_3 (power)
2 alternate drawings of the same symbol

## STM32F103R8T6
designator U?
STM32 ARM-based 32-bit MCU with 64 Kbytes Flash, 64-pin LQFP, Industrial Temperature; Published: *; DatasheetVersion: *; PackageVersion: *; PackageReference: *; Publisher: *; PackageDescription: *; ComponentLink1Description: *; ComponentLink1URL: *; ComponentLink2Description: *; ComponentLink2URL: *
footprint LQFP64
pins: 1 VBAT (power), 2 PC13-TAMPER-RTC (io), 3 PC14-OSC32_IN (io), 4 PC15-OSC32_OUT (io), 5 OSC_IN (in), 6 OSC_OUT (out), 7 NRST (io), 8 ADC12_IN0/PC0 (io), 9 ADC12_IN11/PC1 (io), 10 ADC12_IN12/PC2 (io), 11 ADC12_IN13/PC3 (io), 12 VSSA (power), 13 VDDA (power), 14 PA0/WKUP/USART2_CTS/ADC12_IN0/TIM2_CH1_ETR (io), 15 PA1/USART2_RTS/ADC12_IN1/TIM2_CH2 (io), 16 PA2/USART2_TX/ADC12_IN2/TIM2_CH3 (io), 17 PA3/USART2_RX/ADC12_IN3/TIM2_CH4 (io), 18 VSS_4 (power), 19 VDD_4 (power), 20 PA4/SPI1_NSS/USART2_CK/ADC12_IN4 (io), 21 PA5/SPI1_SCK/ADC12_IN5 (io), 22 PA6/SPI1_MISO/ADC12_IN6/TIM3_CH1 (io), 23 PA7/SPI1_MOSI/ADC12_IN7/TIM3_CH2 (io), 24 ADC12_IN14/PC4 (io), 25 ADC12_IN15/PC5 (io), 26 TIM3_CH3/ADC_IN8/PB0 (io), 27 TIM3_CH4/ADC_IN9/PB1 (io), 28 BOOT1/PB2 (io), 29 USART3_TX/I2C2_SCL/PB10 (io), 30 USART3_RX/I2C2_SDA/PB11 (io), 31 VSS_1 (power), 32 VDD_1 (power), 33 TIM1_BKIN/USART3_CK/I2C2_SMBAL/SPI2_NSS/PB12 (io), 34 TIM1_CH1N/USART3_CTS/SPI2_SCK/PB13 (io), 35 TIM1_CH2N/USART3_RTS/SPI2_MISO/PB14 (io), 36 TIM1_CH3N/SPI2_MOSI/PB15 (io), 37 PC6 (io), 38 PC7 (io), 39 PC8 (io), 40 PC9 (io), 41 PA8/USART1_CK/TIM1_CH1/MCO (io), 42 PA9/USART1_TX/TIM1_CH2 (io), 43 PA10/USART1_RX/TIM1_CH3 (io), 44 PA11/USART1_CTS/CANRX/TIM1_CH4/USBDM (io), 45 PA12/USART1_RTS/CANTX/TIM1_ETR/USBDP (io), 46 PA13/JTMS/SWDIO (io), 47 VSS_2 (power), 48 VDD_2 (power), 49 PA14/JTCK/SWCLK (io), 50 PA15/JTDI (io), 51 PC10 (io), 52 PC11 (io), 53 PC12 (io), 54 PD2/TIM3_ETR (io), 55 JTDO/PB3 (io), 56 JNTRST/PB4 (io), 57 I2C1_SMBAL/PB5 (io), 58 TIM4_CH1/I2C1_SCL/PB6 (io), 59 TIM4_CH2/I2C1_SDA/PB7 (io), 60 BOOT0 (in), 61 TIM4_CH3/PB8 (io), 62 TIM4_CH4/PB9 (io), 63 VSS_3 (power), 64 VDD_3 (power)
2 alternate drawings of the same symbol

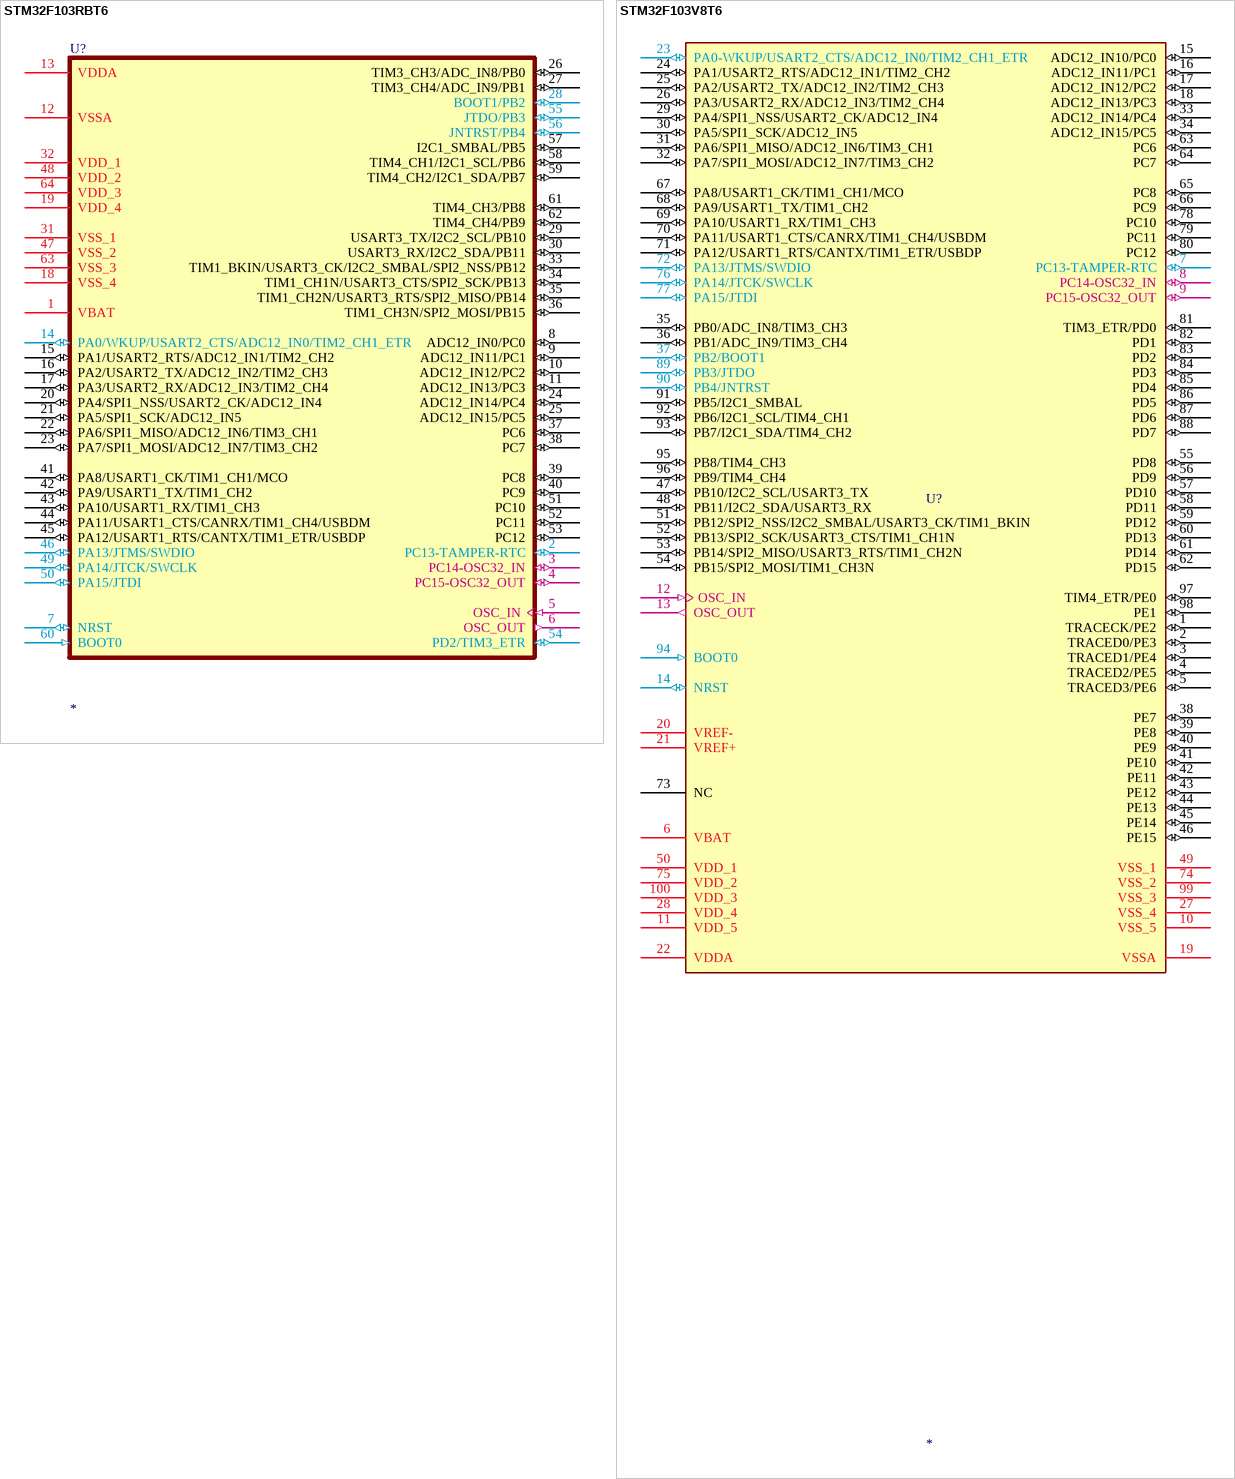
[diagram p6: symbols STM32F103RBT6 to STM32F103V8T6]

## STM32F103RBT6
designator U?
STM32 ARM-based 32-bit MCU with 128 Kbytes Flash, 64-pin LQFP, Industrial Temperature; Published: *; DatasheetVersion: *; PackageVersion: *; PackageReference: *; Publisher: *; PackageDescription: *; ComponentLink1Description: *; ComponentLink1URL: *; ComponentLink2Description: *; ComponentLink2URL: *
footprint LQFP64
pins: 1 VBAT (power), 2 PC13-TAMPER-RTC (io), 3 PC14-OSC32_IN (io), 4 PC15-OSC32_OUT (io), 5 OSC_IN (in), 6 OSC_OUT (out), 7 NRST (io), 8 ADC12_IN0/PC0 (io), 9 ADC12_IN11/PC1 (io), 10 ADC12_IN12/PC2 (io), 11 ADC12_IN13/PC3 (io), 12 VSSA (power), 13 VDDA (power), 14 PA0/WKUP/USART2_CTS/ADC12_IN0/TIM2_CH1_ETR (io), 15 PA1/USART2_RTS/ADC12_IN1/TIM2_CH2 (io), 16 PA2/USART2_TX/ADC12_IN2/TIM2_CH3 (io), 17 PA3/USART2_RX/ADC12_IN3/TIM2_CH4 (io), 18 VSS_4 (power), 19 VDD_4 (power), 20 PA4/SPI1_NSS/USART2_CK/ADC12_IN4 (io), 21 PA5/SPI1_SCK/ADC12_IN5 (io), 22 PA6/SPI1_MISO/ADC12_IN6/TIM3_CH1 (io), 23 PA7/SPI1_MOSI/ADC12_IN7/TIM3_CH2 (io), 24 ADC12_IN14/PC4 (io), 25 ADC12_IN15/PC5 (io), 26 TIM3_CH3/ADC_IN8/PB0 (io), 27 TIM3_CH4/ADC_IN9/PB1 (io), 28 BOOT1/PB2 (io), 29 USART3_TX/I2C2_SCL/PB10 (io), 30 USART3_RX/I2C2_SDA/PB11 (io), 31 VSS_1 (power), 32 VDD_1 (power), 33 TIM1_BKIN/USART3_CK/I2C2_SMBAL/SPI2_NSS/PB12 (io), 34 TIM1_CH1N/USART3_CTS/SPI2_SCK/PB13 (io), 35 TIM1_CH2N/USART3_RTS/SPI2_MISO/PB14 (io), 36 TIM1_CH3N/SPI2_MOSI/PB15 (io), 37 PC6 (io), 38 PC7 (io), 39 PC8 (io), 40 PC9 (io), 41 PA8/USART1_CK/TIM1_CH1/MCO (io), 42 PA9/USART1_TX/TIM1_CH2 (io), 43 PA10/USART1_RX/TIM1_CH3 (io), 44 PA11/USART1_CTS/CANRX/TIM1_CH4/USBDM (io), 45 PA12/USART1_RTS/CANTX/TIM1_ETR/USBDP (io), 46 PA13/JTMS/SWDIO (io), 47 VSS_2 (power), 48 VDD_2 (power), 49 PA14/JTCK/SWCLK (io), 50 PA15/JTDI (io), 51 PC10 (io), 52 PC11 (io), 53 PC12 (io), 54 PD2/TIM3_ETR (io), 55 JTDO/PB3 (io), 56 JNTRST/PB4 (io), 57 I2C1_SMBAL/PB5 (io), 58 TIM4_CH1/I2C1_SCL/PB6 (io), 59 TIM4_CH2/I2C1_SDA/PB7 (io), 60 BOOT0 (in), 61 TIM4_CH3/PB8 (io), 62 TIM4_CH4/PB9 (io), 63 VSS_3 (power), 64 VDD_3 (power)
2 alternate drawings of the same symbol

## STM32F103V8T6
designator U?
STM32 ARM-based 32-bit MCU with 64 Kbytes Flash, 100-pin LQFP, Industrial Temperature; Published: *; DatasheetVersion: *; PackageVersion: *; PackageReference: *; Publisher: *; PackageDescription: *; ComponentLink1Description: *; ComponentLink1URL: *; ComponentLink2Description: *; ComponentLink2URL: *
footprint LQFP100
pins: 1 TRACECK/PE2 (io), 2 TRACED0/PE3 (io), 3 TRACED1/PE4 (io), 4 TRACED2/PE5 (io), 5 TRACED3/PE6 (io), 6 VBAT (power), 7 PC13-TAMPER-RTC (io), 8 PC14-OSC32_IN (io), 9 PC15-OSC32_OUT (io), 10 VSS_5 (power), 11 VDD_5 (power), 12 OSC_IN (in), 13 OSC_OUT (out), 14 NRST (io), 15 ADC12_IN10/PC0 (io), 16 ADC12_IN11/PC1 (io), 17 ADC12_IN12/PC2 (io), 18 ADC12_IN13/PC3 (io), 19 VSSA (power), 20 VREF- (power), 21 VREF+ (power), 22 VDDA (power), 23 PA0-WKUP/USART2_CTS/ADC12_IN0/TIM2_CH1_ETR (io), 24 PA1/USART2_RTS/ADC12_IN1/TIM2_CH2 (io), 25 PA2/USART2_TX/ADC12_IN2/TIM2_CH3 (io), 26 PA3/USART2_RX/ADC12_IN3/TIM2_CH4 (io), 27 VSS_4 (power), 28 VDD_4 (power), 29 PA4/SPI1_NSS/USART2_CK/ADC12_IN4 (io), 30 PA5/SPI1_SCK/ADC12_IN5 (io), 31 PA6/SPI1_MISO/ADC12_IN6/TIM3_CH1 (io), 32 PA7/SPI1_MOSI/ADC12_IN7/TIM3_CH2 (io), 33 ADC12_IN14/PC4 (io), 34 ADC12_IN15/PC5 (io), 35 PB0/ADC_IN8/TIM3_CH3 (io), 36 PB1/ADC_IN9/TIM3_CH4 (io), 37 PB2/BOOT1 (io), 38 PE7 (io), 39 PE8 (io), 40 PE9 (io), 41 PE10 (io), 42 PE11 (io), 43 PE12 (io), 44 PE13 (io), 45 PE14 (io), 46 PE15 (io), 47 PB10/I2C2_SCL/USART3_TX (io), 48 PB11/I2C2_SDA/USART3_RX (io), 49 VSS_1 (power), 50 VDD_1 (power), 51 PB12/SPI2_NSS/I2C2_SMBAL/USART3_CK/TIM1_BKIN (io), 52 PB13/SPI2_SCK/USART3_CTS/TIM1_CH1N (io), 53 PB14/SPI2_MISO/USART3_RTS/TIM1_CH2N (io), 54 PB15/SPI2_MOSI/TIM1_CH3N (io), 55 PD8 (io), 56 PD9 (io), 57 PD10 (io), 58 PD11 (io), 59 PD12 (io), 60 PD13 (io), 61 PD14 (io), 62 PD15 (io), 63 PC6 (io), 64 PC7 (io), 65 PC8 (io), 66 PC9 (io), 67 PA8/USART1_CK/TIM1_CH1/MCO (io), 68 PA9/USART1_TX/TIM1_CH2 (io), 69 PA10/USART1_RX/TIM1_CH3 (io), 70 PA11/USART1_CTS/CANRX/TIM1_CH4/USBDM (io), 71 PA12/USART1_RTS/CANTX/TIM1_ETR/USBDP (io), 72 PA13/JTMS/SWDIO (io), 73 NC (hiz), 74 VSS_2 (power), 75 VDD_2 (power), 76 PA14/JTCK/SWCLK (io), 77 PA15/JTDI (io), 78 PC10 (io), 79 PC11 (io), 80 PC12 (io), 81 TIM3_ETR/PD0 (io), 82 PD1 (io), 83 PD2 (io), 84 PD3 (io), 85 PD4 (io), 86 PD5 (io), 87 PD6 (io), 88 PD7 (io), 89 PB3/JTDO (io), 90 PB4/JNTRST (io), 91 PB5/I2C1_SMBAL (io), 92 PB6/I2C1_SCL/TIM4_CH1 (io), 93 PB7/I2C1_SDA/TIM4_CH2 (io), 94 BOOT0 (in), 95 PB8/TIM4_CH3 (io), 96 PB9/TIM4_CH4 (io), 97 TIM4_ETR/PE0 (io), 98 PE1 (io), 99 VSS_3 (power), 100 VDD_3 (power)
2 alternate drawings of the same symbol

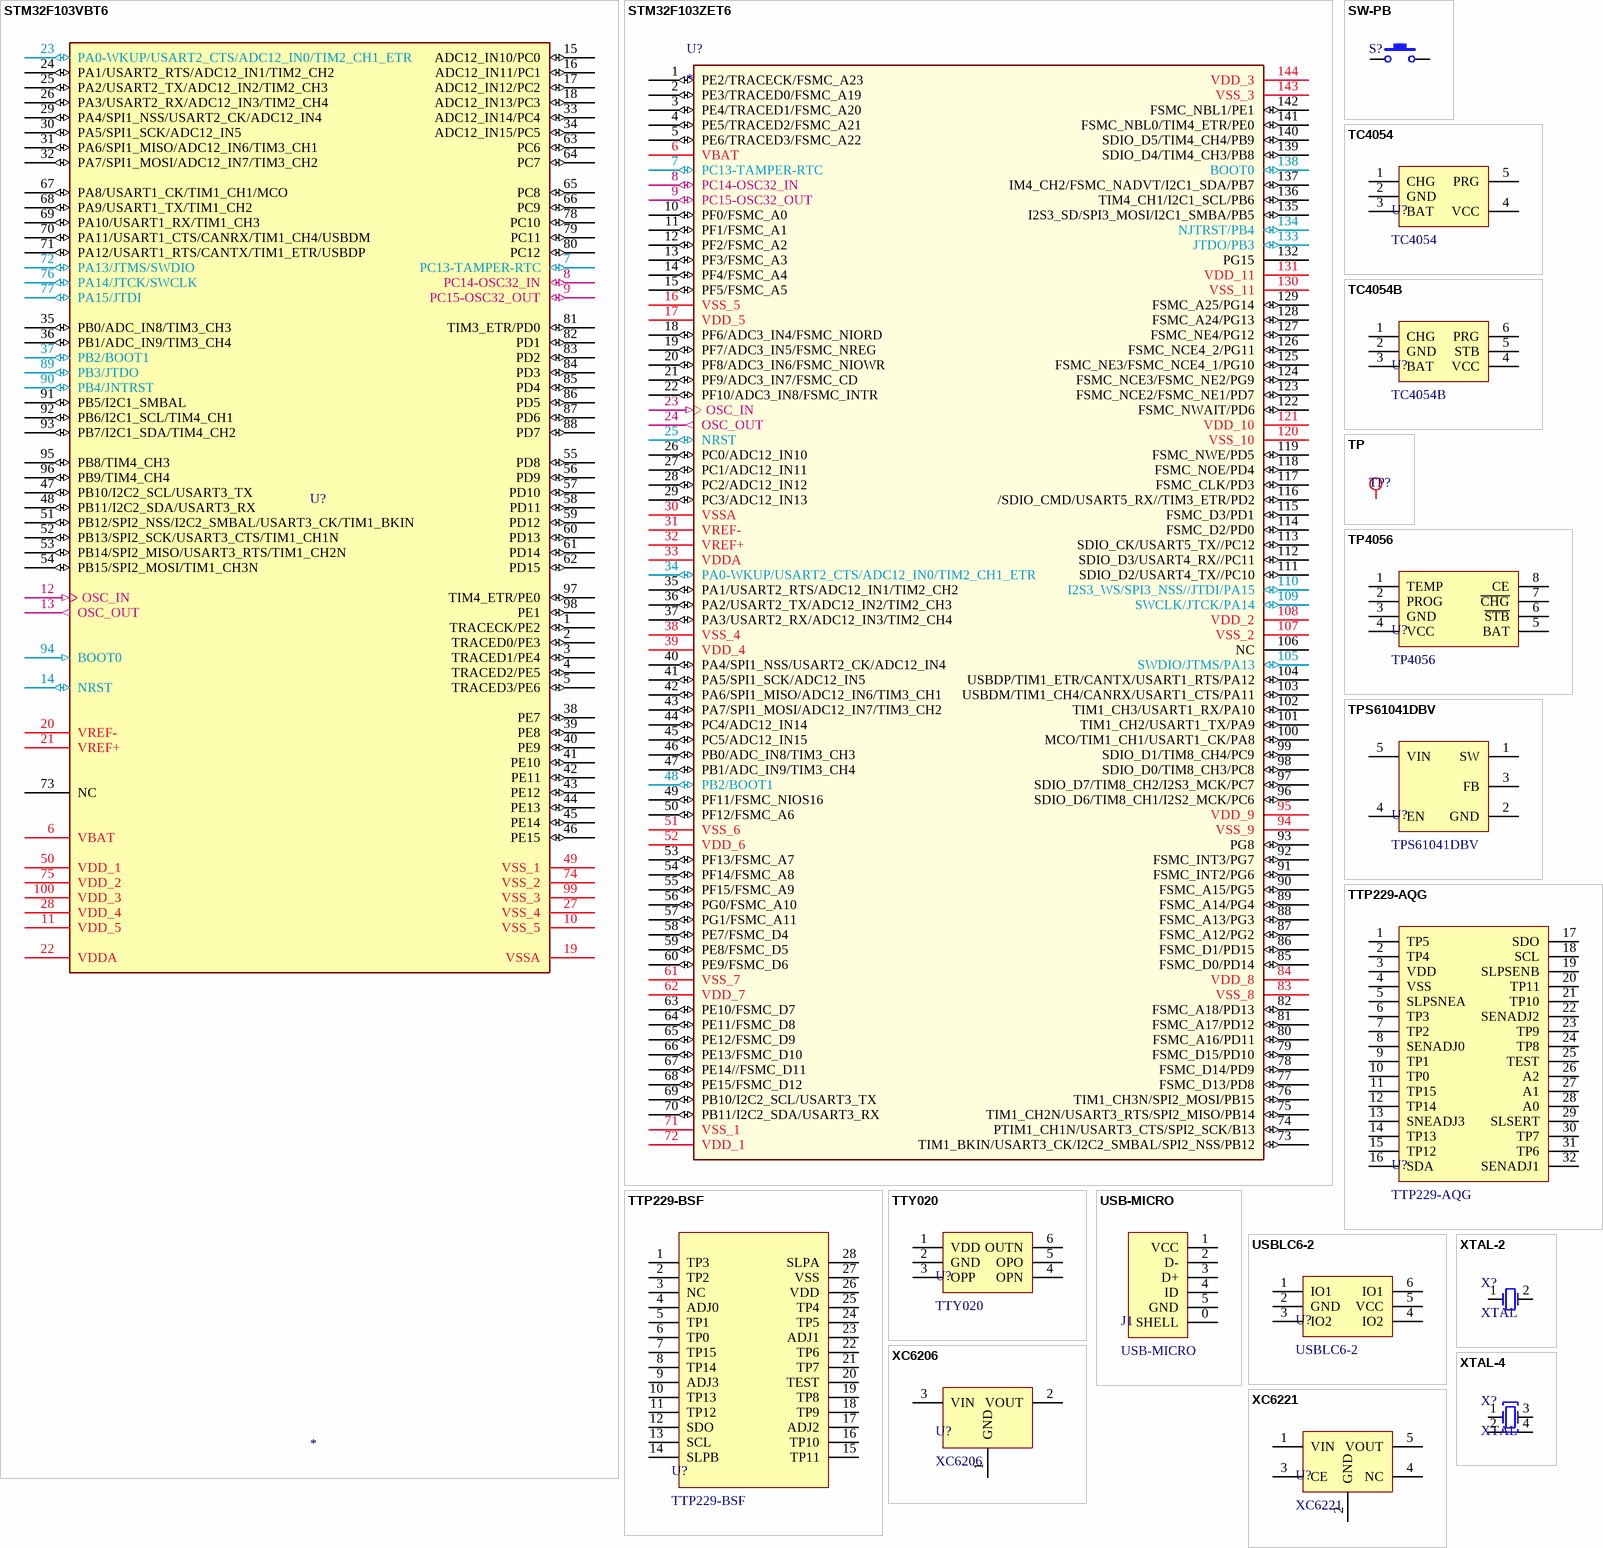
[diagram p7: symbols STM32F103VBT6 to XTAL-4]